# Altium integrated library Xilinx Virtex.IntLib: 240 symbols (part 4 of 34)
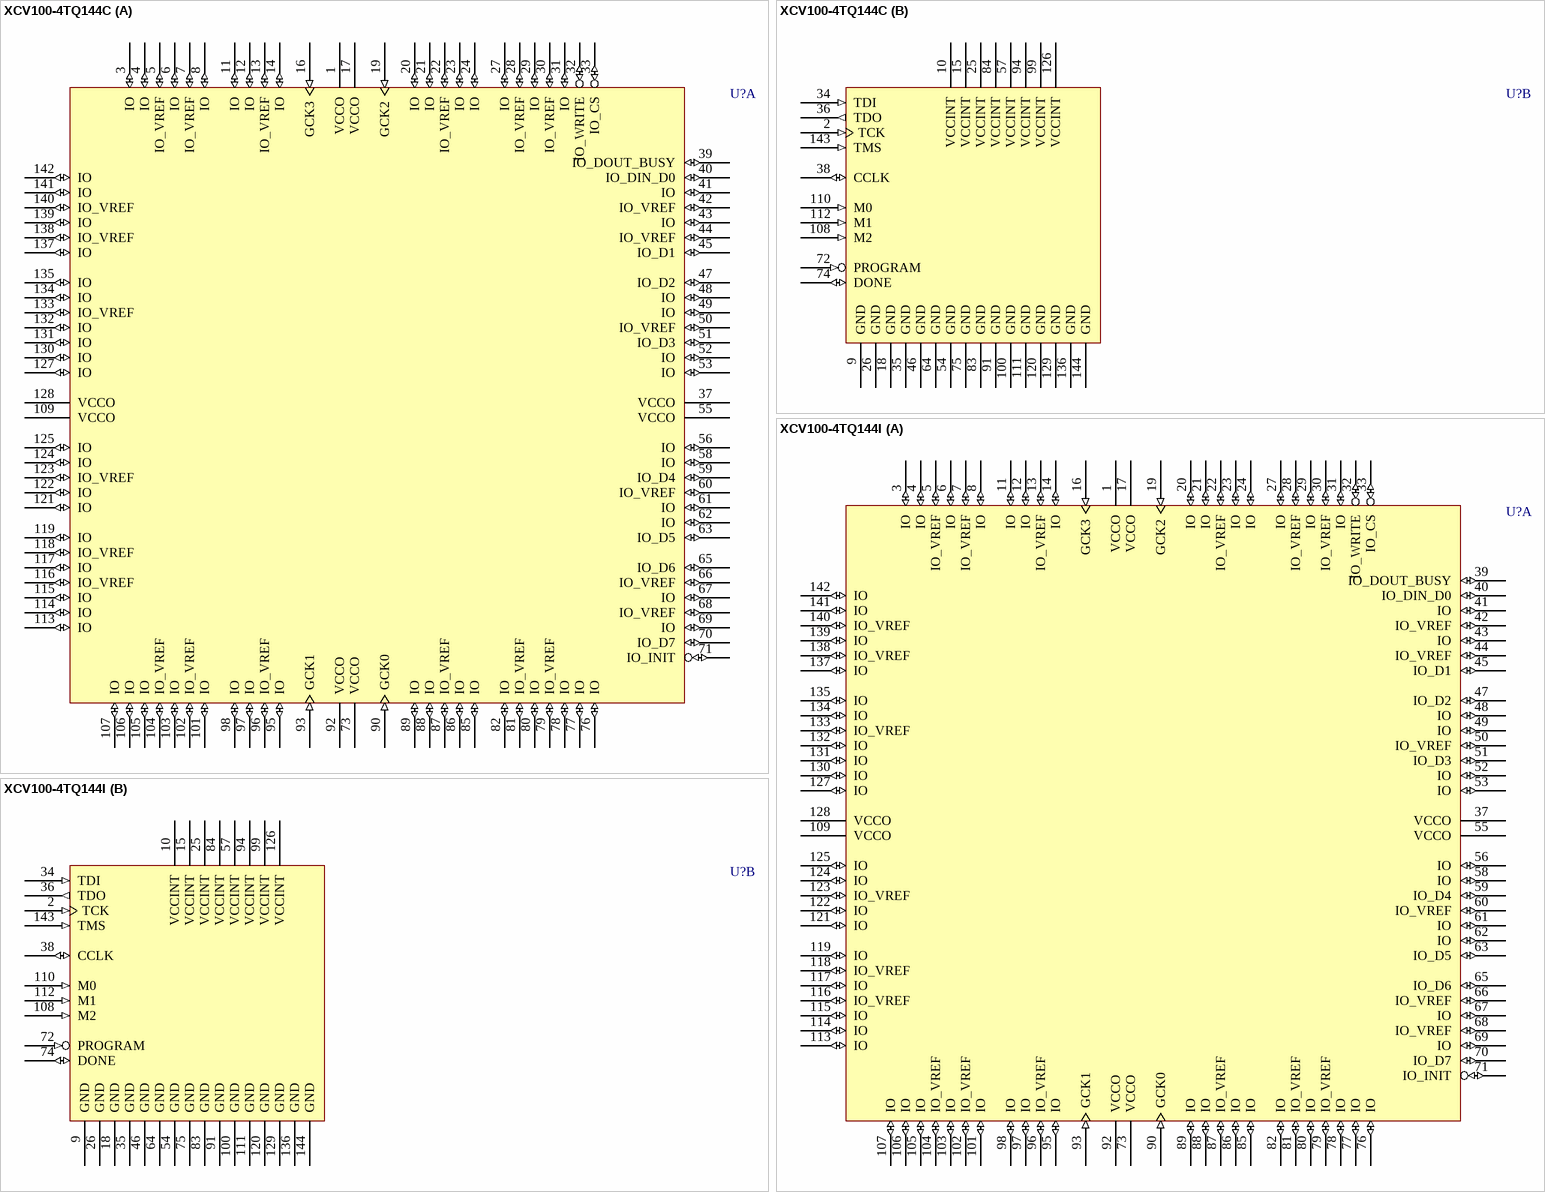
[diagram p383: symbols XCV100-4TQ144C to XCV100-4TQ144I]

## XCV100-4TQ144I
designator U?
Virtex 2.5V FPGA, 144-Pin TQFP, Industrial Grade; PackageDocument: ver1.1, Oct-2002; Published: 19-Sep-2001; LatestRevisionDate: 17-Jul-2002; LatestRevisionNote: Re-released for DXP Platform.; DatasheetDocument: Dec-2002; PackageReference: TQ144; Publisher: Altium Limited; Code_JEDEC: MS-026-BFB; Code_IPC: SQFP20X20-144
footprint TQ144 (144-Pin Thin Quad Flat Pack (TQ144))
3D model XCV100-TQ144 (144-Pin Thin Quad Flat Pack (TQ144))
signal-integrity model XCV100_TQ144 (Virtex)
part A pins: 1 VCCO (power), 3 IO (io), 4 IO (io), 5 IO_VREF (io), 6 IO (io), 7 IO_VREF (io), 8 IO (io), 11 IO (io), 12 IO (io), 13 IO_VREF (io), 14 IO (io), 16 GCK3 (in), 17 VCCO (power), 19 GCK2 (in), 20 IO (io), 21 IO (io), 22 IO_VREF (io), 23 IO (io), 24 IO (io), 27 IO (io), 28 IO_VREF (io), 29 IO (io), 30 IO_VREF (io), 31 IO (io), 32 IO_WRITE (io), 33 IO_CS (io), 37 VCCO (power), 39 IO_DOUT_BUSY (io), 40 IO_DIN_D0 (io), 41 IO (io), 42 IO_VREF (io), 43 IO (io), 44 IO_VREF (io), 45 IO_D1 (io), 47 IO_D2 (io), 48 IO (io), 49 IO (io), 50 IO_VREF (io), 51 IO_D3 (io), 52 IO (io), 53 IO (io), 55 VCCO (power), 56 IO (io), 58 IO (io), 59 IO_D4 (io), 60 IO_VREF (io), 61 IO (io), 62 IO (io), 63 IO_D5 (io), 65 IO_D6 (io), 66 IO_VREF (io), 67 IO (io), 68 IO_VREF (io), 69 IO (io), 70 IO_D7 (io), 71 IO_INIT (io), 73 VCCO (power), 76 IO (io), 77 IO (io), 78 IO (io), 79 IO_VREF (io), 80 IO (io), 81 IO_VREF (io), 82 IO (io), 85 IO (io), 86 IO (io), 87 IO_VREF (io), 88 IO (io), 89 IO (io), 90 GCK0 (in), 92 VCCO (power), 93 GCK1 (in), 95 IO (io), 96 IO_VREF (io), 97 IO (io), 98 IO (io), 101 IO (io), 102 IO_VREF (io), 103 IO (io), 104 IO_VREF (io), 105 IO (io), 106 IO (io), 107 IO (io), 109 VCCO (power), 113 IO (io), 114 IO (io), 115 IO (io), 116 IO_VREF (io), 117 IO (io), 118 IO_VREF (io), 119 IO (io), 121 IO (io), 122 IO (io), 123 IO_VREF (io), 124 IO (io), 125 IO (io), 127 IO (io), 128 VCCO (power), 130 IO (io), 131 IO (io), 132 IO (io), 133 IO_VREF (io), 134 IO (io), 135 IO (io), 137 IO (io), 138 IO_VREF (io), 139 IO (io), 140 IO_VREF (io), 141 IO (io), 142 IO (io)
part B pins: 2 TCK (in), 9 GND (power), 10 VCCINT (power), 15 VCCINT (power), 18 GND (power), 25 VCCINT (power), 26 GND (power), 34 TDI (in), 35 GND (power), 36 TDO (out), 38 CCLK (io), 46 GND (power), 54 GND (power), 57 VCCINT (power), 64 GND (power), 72 PROGRAM (in), 74 DONE (io), 75 GND (power), 83 GND (power), 84 VCCINT (power), 91 GND (power), 94 VCCINT (power), 99 VCCINT (power), 100 GND (power), 108 M2 (in), 110 M0 (in), 111 GND (power), 112 M1 (in), 120 GND (power), 126 VCCINT (power), 129 GND (power), 136 GND (power), 143 TMS (in), 144 GND (power)

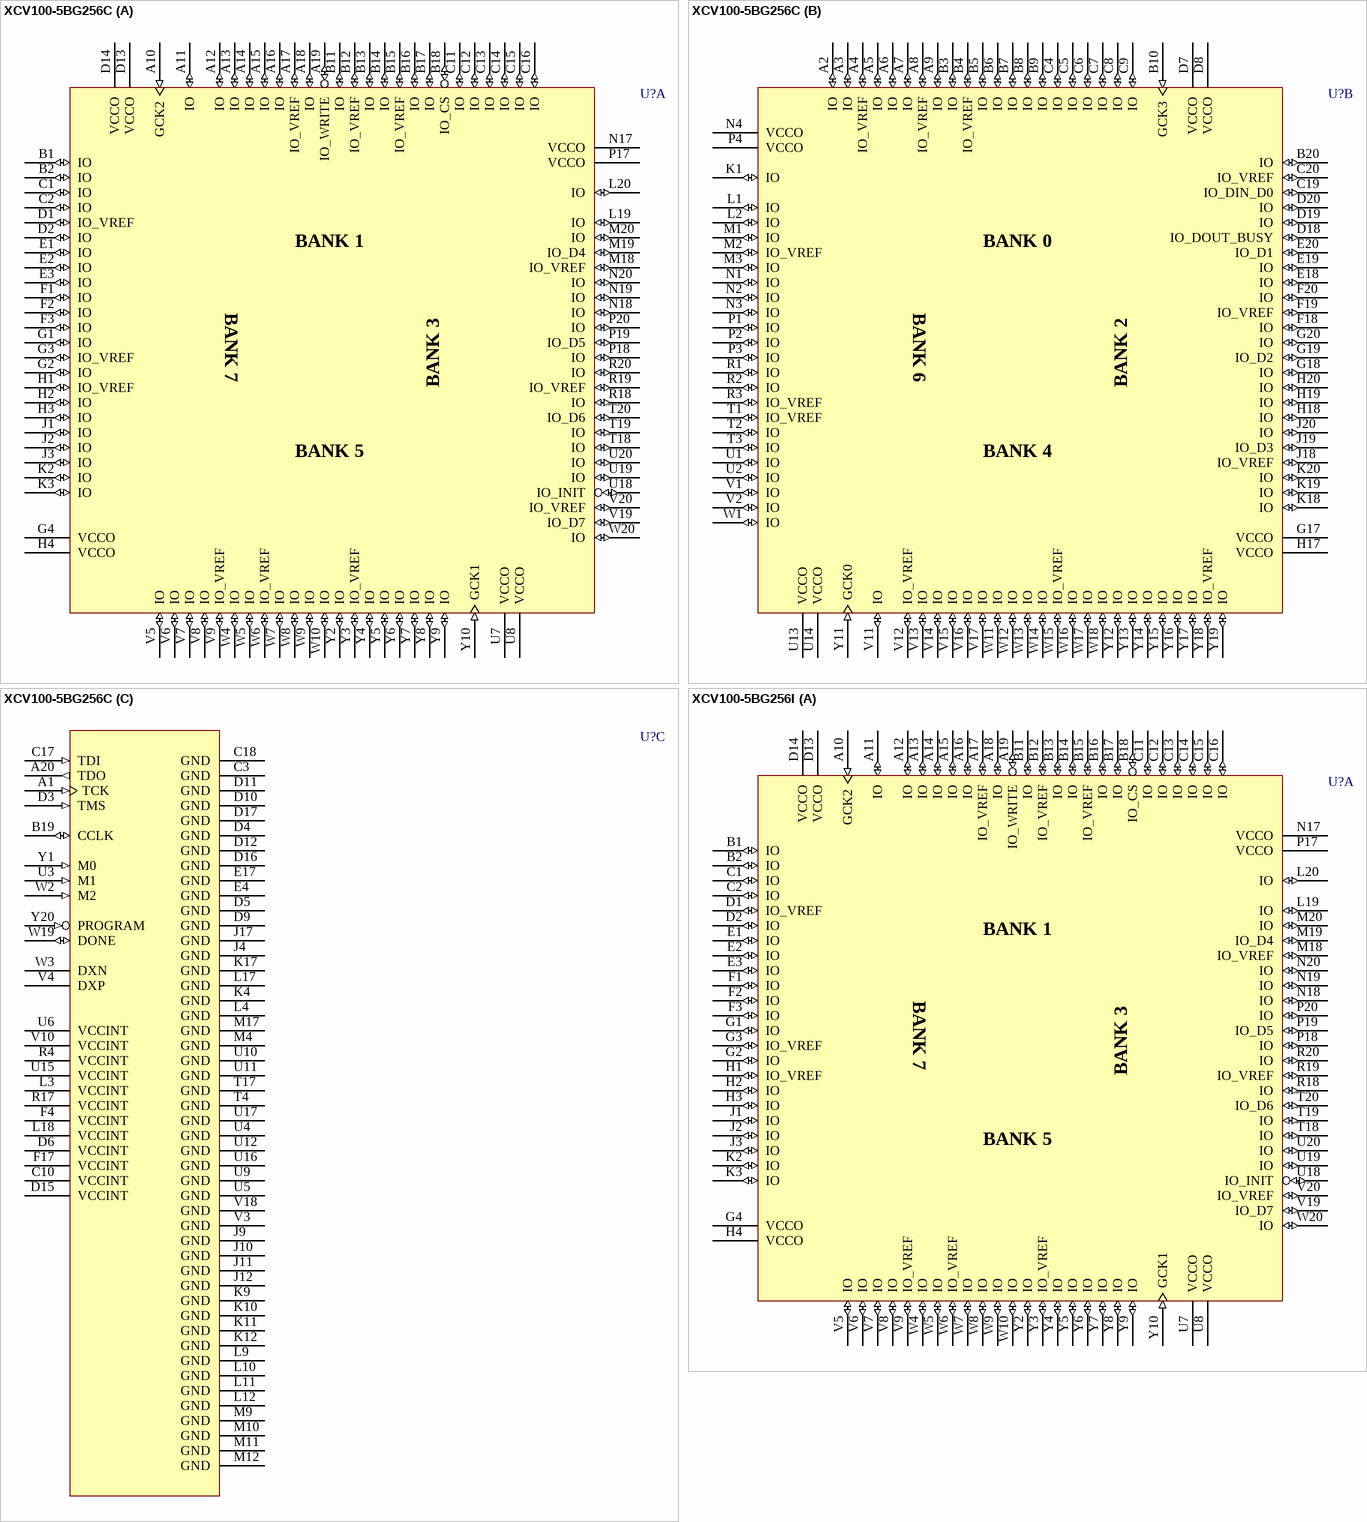
[diagram p28: symbols XCV100-5BG256C to XCV100-5BG256I]

## XCV100-5BG256C
designator U?
Virtex 2.5V FPGA, 256-Ball Thermally Enhanced BGA, Commercial Grade; PackageDocument: ver1.1, Apr-2001; Note: Solder pads are defined by the copper, i.e. non-soldermask defined (NSMD); 16 extra balls (grounded) at package center; Published: 19-Sep-2001; LatestRevisionDate: 17-Jul-2002; LatestRevisionNote: Re-released for DXP Platform.; DatasheetDocument: Dec-2002; PackageReference: BG256TE; Publisher: Altium Limited
footprint BG256TE (272-Ball Plastic Ball Grid Array (Thermally Enhanced BG256))
3D model XCV100-BG256TE (272-Ball Plastic Ball Grid Array (Thermally Enhanced BG256))
signal-integrity model XCV100_BG256 (Virtex)
part A pins: A10 GCK2 (in), A11 IO (io), A12 IO (io), A13 IO (io), A14 IO (io), A15 IO (io), A16 IO (io), A17 IO_VREF (io), A18 IO (io), A19 IO_WRITE (io), B1 IO (io), B2 IO (io), B11 IO (io), B12 IO_VREF (io), B13 IO (io), B14 IO (io), B15 IO_VREF (io), B16 IO (io), B17 IO (io), B18 IO_CS (io), C1 IO (io), C2 IO (io), C11 IO (io), C12 IO (io), C13 IO (io), C14 IO (io), C15 IO (io), C16 IO (io), D1 IO_VREF (io), D2 IO (io), D13 VCCO (power), D14 VCCO (power), E1 IO (io), E2 IO (io), E3 IO (io), F1 IO (io), F2 IO (io), F3 IO (io), G1 IO (io), G2 IO (io), G3 IO_VREF (io), G4 VCCO (power), H1 IO_VREF (io), H2 IO (io), H3 IO (io), H4 VCCO (power), J1 IO (io), J2 IO (io), J3 IO (io), K2 IO (io), K3 IO (io), L19 IO (io), L20 IO (io), M18 IO_VREF (io), M19 IO_D4 (io), M20 IO (io), N17 VCCO (power), N18 IO (io), N19 IO (io), N20 IO (io), P17 VCCO (power), P18 IO (io), P19 IO_D5 (io), P20 IO (io), R18 IO (io), R19 IO_VREF (io), R20 IO (io), T18 IO (io), T19 IO (io), T20 IO_D6 (io), U7 VCCO (power), U8 VCCO (power), U18 IO_INIT (io), U19 IO (io), U20 IO (io), V5 IO (io), V6 IO (io), V7 IO (io), V8 IO (io), V9 IO_VREF (io), V19 IO_D7 (io), V20 IO_VREF (io), W4 IO (io), W5 IO (io), W6 IO_VREF (io), W7 IO (io), W8 IO (io), W9 IO (io), W10 IO (io), W20 IO (io), Y2 IO (io), Y3 IO_VREF (io), Y4 IO (io), Y5 IO (io), Y6 IO (io), Y7 IO (io), Y8 IO (io), Y9 IO (io), Y10 GCK1 (in)
part B pins: A2 IO (io), A3 IO (io), A4 IO_VREF (io), A5 IO (io), A6 IO (io), A7 IO (io), A8 IO_VREF (io), A9 IO (io), B3 IO (io), B4 IO_VREF (io), B5 IO (io), B6 IO (io), B7 IO (io), B8 IO (io), B9 IO (io), B10 GCK3 (in), B20 IO (io), C4 IO (io), C5 IO (io), C6 IO (io), C7 IO (io), C8 IO (io), C9 IO (io), C19 IO_DIN_D0 (io), C20 IO_VREF (io), D7 VCCO (power), D8 VCCO (power), D18 IO_DOUT_BUSY (io), D19 IO (io), D20 IO (io), E18 IO (io), E19 IO (io), E20 IO_D1 (io), F18 IO (io), F19 IO_VREF (io), F20 IO (io), G17 VCCO (power), G18 IO (io), G19 IO_D2 (io), G20 IO (io), H17 VCCO (power), H18 IO (io), H19 IO (io), H20 IO (io), J18 IO_VREF (io), J19 IO_D3 (io), J20 IO (io), K1 IO (io), K18 IO (io), K19 IO (io), K20 IO (io), L1 IO (io), L2 IO (io), M1 IO (io), M2 IO_VREF (io), M3 IO (io), N1 IO (io), N2 IO (io), N3 IO (io), N4 VCCO (power), P1 IO (io), P2 IO (io), P3 IO (io), P4 VCCO (power), R1 IO (io), R2 IO (io), R3 IO_VREF (io), T1 IO_VREF (io), T2 IO (io), T3 IO (io), U1 IO (io), U2 IO (io), U13 VCCO (power), U14 VCCO (power), V1 IO (io), V2 IO (io), V11 IO (io), V12 IO_VREF (io), V13 IO (io), V14 IO (io), V15 IO (io), V16 IO (io), V17 IO (io), W1 IO (io), W11 IO (io), W12 IO (io), W13 IO (io), W14 IO (io), W15 IO_VREF (io), W16 IO (io), W17 IO (io), W18 IO (io), Y11 GCK0 (in), Y12 IO (io), Y13 IO (io), Y14 IO (io), Y15 IO (io), Y16 IO (io), Y17 IO (io), Y18 IO_VREF (io), Y19 IO (io)
part C pins: A1 TCK (in), A20 TDO (out), B19 CCLK (io), C3 GND (power), C10 VCCINT (power), C17 TDI (in), C18 GND (power), D3 TMS (in), D4 GND (power), D5 GND (power), D6 VCCINT (power), D9 GND (power), D10 GND (power), D11 GND (power), D12 GND (power), D15 VCCINT (power), D16 GND (power), D17 GND (power), E4 GND (power), E17 GND (power), F4 VCCINT (power), F17 VCCINT (power), J4 GND (power), J9 GND (power), J10 GND (power), J11 GND (power), J12 GND (power), J17 GND (power), K4 GND (power), K9 GND (power), K10 GND (power), K11 GND (power), K12 GND (power), K17 GND (power), L3 VCCINT (power), L4 GND (power), L9 GND (power), L10 GND (power), L11 GND (power), L12 GND (power), L17 GND (power), L18 VCCINT (power), M4 GND (power), M9 GND (power), M10 GND (power), M11 GND (power), M12 GND (power), M17 GND (power), R4 VCCINT (power), R17 VCCINT (power), T4 GND (power), T17 GND (power), U3 M1 (in), U4 GND (power), U5 GND (power), U6 VCCINT (power), U9 GND (power), U10 GND (power), U11 GND (power), U12 GND (power), U15 VCCINT (power), U16 GND (power), U17 GND (power), V3 GND (power), V4 DXP, V10 VCCINT (power), V18 GND (power), W2 M2 (in), W3 DXN, W19 DONE (io), Y1 M0 (in), Y20 PROGRAM (in)
part A text: BANK 1; BANK 7; BANK 3; BANK 5
part B text: BANK 0; BANK 6; BANK 2; BANK 4

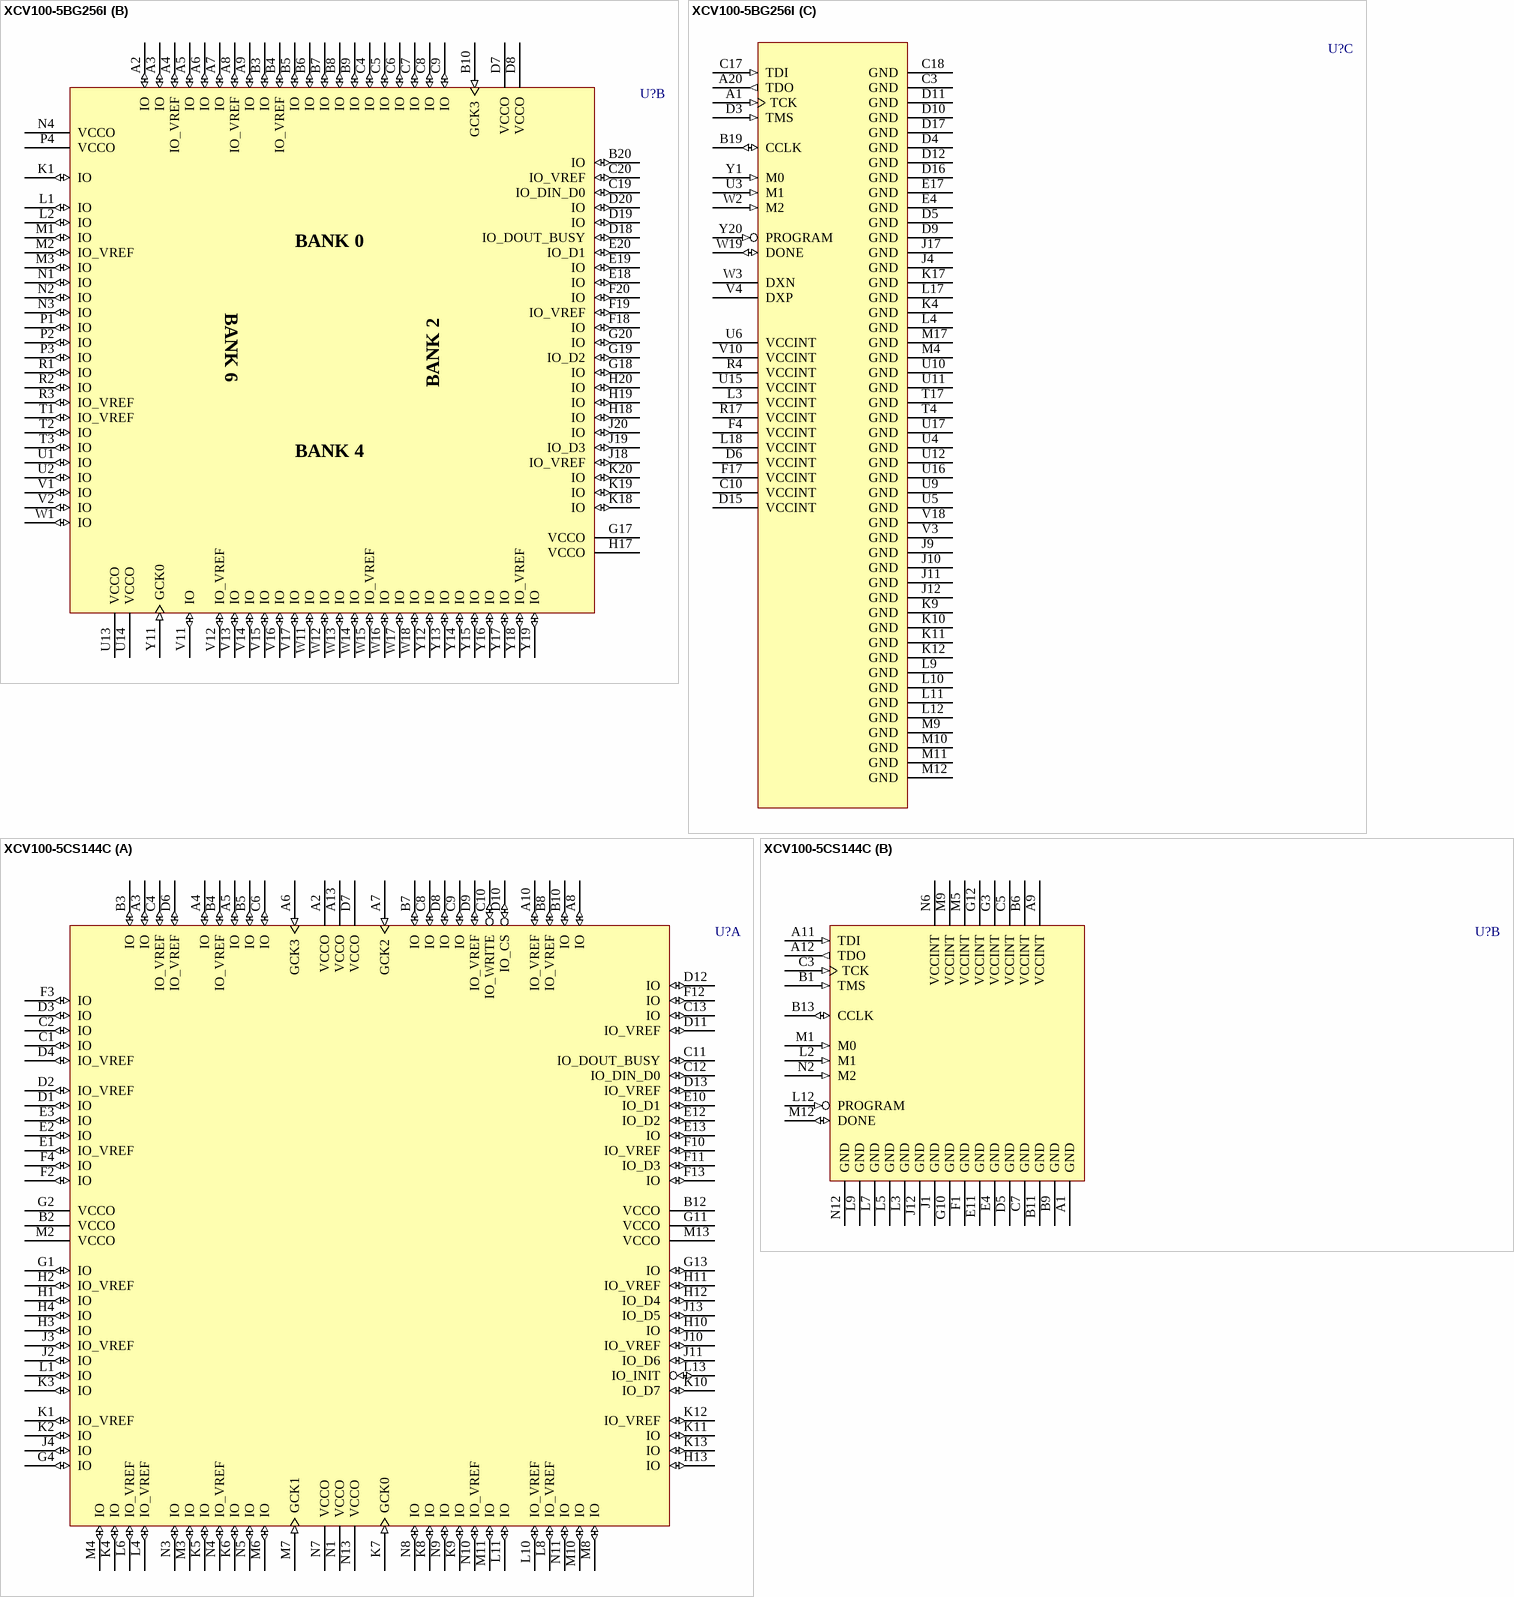
[diagram p29: symbols XCV100-5BG256I to XCV100-5CS144C]

## XCV100-5BG256I
designator U?
Virtex 2.5V FPGA, 256-Ball Thermally Enhanced BGA, Industrial Grade; PackageDocument: ver1.1, Apr-2001; Note: Solder pads are defined by the copper, i.e. non-soldermask defined (NSMD); 16 extra balls (grounded) at package center; Published: 19-Sep-2001; LatestRevisionDate: 17-Jul-2002; LatestRevisionNote: Re-released for DXP Platform.; DatasheetDocument: Dec-2002; PackageReference: BG256TE; Publisher: Altium Limited
footprint BG256TE (272-Ball Plastic Ball Grid Array (Thermally Enhanced BG256))
3D model XCV100-BG256TE (272-Ball Plastic Ball Grid Array (Thermally Enhanced BG256))
signal-integrity model XCV100_BG256 (Virtex)
part A pins: A10 GCK2 (in), A11 IO (io), A12 IO (io), A13 IO (io), A14 IO (io), A15 IO (io), A16 IO (io), A17 IO_VREF (io), A18 IO (io), A19 IO_WRITE (io), B1 IO (io), B2 IO (io), B11 IO (io), B12 IO_VREF (io), B13 IO (io), B14 IO (io), B15 IO_VREF (io), B16 IO (io), B17 IO (io), B18 IO_CS (io), C1 IO (io), C2 IO (io), C11 IO (io), C12 IO (io), C13 IO (io), C14 IO (io), C15 IO (io), C16 IO (io), D1 IO_VREF (io), D2 IO (io), D13 VCCO (power), D14 VCCO (power), E1 IO (io), E2 IO (io), E3 IO (io), F1 IO (io), F2 IO (io), F3 IO (io), G1 IO (io), G2 IO (io), G3 IO_VREF (io), G4 VCCO (power), H1 IO_VREF (io), H2 IO (io), H3 IO (io), H4 VCCO (power), J1 IO (io), J2 IO (io), J3 IO (io), K2 IO (io), K3 IO (io), L19 IO (io), L20 IO (io), M18 IO_VREF (io), M19 IO_D4 (io), M20 IO (io), N17 VCCO (power), N18 IO (io), N19 IO (io), N20 IO (io), P17 VCCO (power), P18 IO (io), P19 IO_D5 (io), P20 IO (io), R18 IO (io), R19 IO_VREF (io), R20 IO (io), T18 IO (io), T19 IO (io), T20 IO_D6 (io), U7 VCCO (power), U8 VCCO (power), U18 IO_INIT (io), U19 IO (io), U20 IO (io), V5 IO (io), V6 IO (io), V7 IO (io), V8 IO (io), V9 IO_VREF (io), V19 IO_D7 (io), V20 IO_VREF (io), W4 IO (io), W5 IO (io), W6 IO_VREF (io), W7 IO (io), W8 IO (io), W9 IO (io), W10 IO (io), W20 IO (io), Y2 IO (io), Y3 IO_VREF (io), Y4 IO (io), Y5 IO (io), Y6 IO (io), Y7 IO (io), Y8 IO (io), Y9 IO (io), Y10 GCK1 (in)
part B pins: A2 IO (io), A3 IO (io), A4 IO_VREF (io), A5 IO (io), A6 IO (io), A7 IO (io), A8 IO_VREF (io), A9 IO (io), B3 IO (io), B4 IO_VREF (io), B5 IO (io), B6 IO (io), B7 IO (io), B8 IO (io), B9 IO (io), B10 GCK3 (in), B20 IO (io), C4 IO (io), C5 IO (io), C6 IO (io), C7 IO (io), C8 IO (io), C9 IO (io), C19 IO_DIN_D0 (io), C20 IO_VREF (io), D7 VCCO (power), D8 VCCO (power), D18 IO_DOUT_BUSY (io), D19 IO (io), D20 IO (io), E18 IO (io), E19 IO (io), E20 IO_D1 (io), F18 IO (io), F19 IO_VREF (io), F20 IO (io), G17 VCCO (power), G18 IO (io), G19 IO_D2 (io), G20 IO (io), H17 VCCO (power), H18 IO (io), H19 IO (io), H20 IO (io), J18 IO_VREF (io), J19 IO_D3 (io), J20 IO (io), K1 IO (io), K18 IO (io), K19 IO (io), K20 IO (io), L1 IO (io), L2 IO (io), M1 IO (io), M2 IO_VREF (io), M3 IO (io), N1 IO (io), N2 IO (io), N3 IO (io), N4 VCCO (power), P1 IO (io), P2 IO (io), P3 IO (io), P4 VCCO (power), R1 IO (io), R2 IO (io), R3 IO_VREF (io), T1 IO_VREF (io), T2 IO (io), T3 IO (io), U1 IO (io), U2 IO (io), U13 VCCO (power), U14 VCCO (power), V1 IO (io), V2 IO (io), V11 IO (io), V12 IO_VREF (io), V13 IO (io), V14 IO (io), V15 IO (io), V16 IO (io), V17 IO (io), W1 IO (io), W11 IO (io), W12 IO (io), W13 IO (io), W14 IO (io), W15 IO_VREF (io), W16 IO (io), W17 IO (io), W18 IO (io), Y11 GCK0 (in), Y12 IO (io), Y13 IO (io), Y14 IO (io), Y15 IO (io), Y16 IO (io), Y17 IO (io), Y18 IO_VREF (io), Y19 IO (io)
part C pins: A1 TCK (in), A20 TDO (out), B19 CCLK (io), C3 GND (power), C10 VCCINT (power), C17 TDI (in), C18 GND (power), D3 TMS (in), D4 GND (power), D5 GND (power), D6 VCCINT (power), D9 GND (power), D10 GND (power), D11 GND (power), D12 GND (power), D15 VCCINT (power), D16 GND (power), D17 GND (power), E4 GND (power), E17 GND (power), F4 VCCINT (power), F17 VCCINT (power), J4 GND (power), J9 GND (power), J10 GND (power), J11 GND (power), J12 GND (power), J17 GND (power), K4 GND (power), K9 GND (power), K10 GND (power), K11 GND (power), K12 GND (power), K17 GND (power), L3 VCCINT (power), L4 GND (power), L9 GND (power), L10 GND (power), L11 GND (power), L12 GND (power), L17 GND (power), L18 VCCINT (power), M4 GND (power), M9 GND (power), M10 GND (power), M11 GND (power), M12 GND (power), M17 GND (power), R4 VCCINT (power), R17 VCCINT (power), T4 GND (power), T17 GND (power), U3 M1 (in), U4 GND (power), U5 GND (power), U6 VCCINT (power), U9 GND (power), U10 GND (power), U11 GND (power), U12 GND (power), U15 VCCINT (power), U16 GND (power), U17 GND (power), V3 GND (power), V4 DXP, V10 VCCINT (power), V18 GND (power), W2 M2 (in), W3 DXN, W19 DONE (io), Y1 M0 (in), Y20 PROGRAM (in)
part A text: BANK 1; BANK 7; BANK 3; BANK 5
part B text: BANK 0; BANK 6; BANK 2; BANK 4

## XCV100-5CS144C
designator U?
Virtex 2.5V FPGA, 144-Ball CSBGA, Commercial Grade; PackageDocument: ver1.0, Jun-2000; Note: Solder pads are defined by the copper, i.e. non-soldermask defined (NSMD); Published: 19-Sep-2001; LatestRevisionDate: 17-Sep-2003; LatestRevisionNote: PCB Footprint dimensions updated; DatasheetDocument: Dec-2002; PackageReference: CS144; Publisher: Altium Limited
footprint CS144 (144-Ball Chip Scale Ball Grid Array (CS144))
3D model XCV100-CS144 (144-Ball Chip Scale Ball Grid Array (CS144))
signal-integrity model XCV100_CS144 (Virtex)
part A pins: A2 VCCO (power), A3 IO (io), A4 IO (io), A5 IO (io), A6 GCK3 (in), A7 GCK2 (in), A8 IO (io), A10 IO_VREF (io), A13 VCCO (power), B2 VCCO (power), B3 IO (io), B4 IO_VREF (io), B5 IO (io), B7 IO (io), B8 IO_VREF (io), B10 IO (io), B12 VCCO (power), C1 IO (io), C2 IO (io), C4 IO_VREF (io), C6 IO (io), C8 IO (io), C9 IO (io), C10 IO_WRITE (io), C11 IO_DOUT_BUSY (io), C12 IO_DIN_D0 (io), C13 IO (io), D1 IO (io), D2 IO_VREF (io), D3 IO (io), D4 IO_VREF (io), D6 IO_VREF (io), D7 VCCO (power), D8 IO (io), D9 IO_VREF (io), D10 IO_CS (io), D11 IO_VREF (io), D12 IO (io), D13 IO_VREF (io), E1 IO_VREF (io), E2 IO (io), E3 IO (io), E10 IO_D1 (io), E12 IO_D2 (io), E13 IO (io), F2 IO (io), F3 IO (io), F4 IO (io), F10 IO_VREF (io), F11 IO_D3 (io), F12 IO (io), F13 IO (io), G1 IO (io), G2 VCCO (power), G4 IO (io), G11 VCCO (power), G13 IO (io), H1 IO (io), H2 IO_VREF (io), H3 IO (io), H4 IO (io), H10 IO (io), H11 IO_VREF (io), H12 IO_D4 (io), H13 IO (io), J2 IO (io), J3 IO_VREF (io), J4 IO (io), J10 IO_VREF (io), J11 IO_D6 (io), J13 IO_D5 (io), K1 IO_VREF (io), K2 IO (io), K3 IO (io), K4 IO (io), K5 IO (io), K6 IO (io), K7 GCK0 (in), K8 IO (io), K9 IO (io), K10 IO_D7 (io), K11 IO (io), K12 IO_VREF (io), K13 IO (io), L1 IO (io), L4 IO_VREF (io), L6 IO_VREF (io), L8 IO_VREF (io), L10 IO_VREF (io), L11 IO (io), L13 IO_INIT (io), M2 VCCO (power), M3 IO (io), M4 IO (io), M6 IO (io), M7 GCK1 (in), M8 IO (io), M10 IO (io), M11 IO (io), M13 VCCO (power), N1 VCCO (power), N3 IO (io), N4 IO_VREF (io), N5 IO (io), N7 VCCO (power), N8 IO (io), N9 IO (io), N10 IO_VREF (io), N11 IO (io), N13 VCCO (power)
part B pins: A1 GND (power), A9 VCCINT (power), A11 TDI (in), A12 TDO (out), B1 TMS (in), B6 VCCINT (power), B9 GND (power), B11 GND (power), B13 CCLK (io), C3 TCK (in), C5 VCCINT (power), C7 GND (power), D5 GND (power), E4 GND (power), E11 GND (power), F1 GND (power), G3 VCCINT (power), G10 GND (power), G12 VCCINT (power), J1 GND (power), J12 GND (power), L2 M1 (in), L3 GND (power), L5 GND (power), L7 GND (power), L9 GND (power), L12 PROGRAM (in), M1 M0 (in), M5 VCCINT (power), M9 VCCINT (power), M12 DONE (io), N2 M2 (in), N6 VCCINT (power), N12 GND (power)

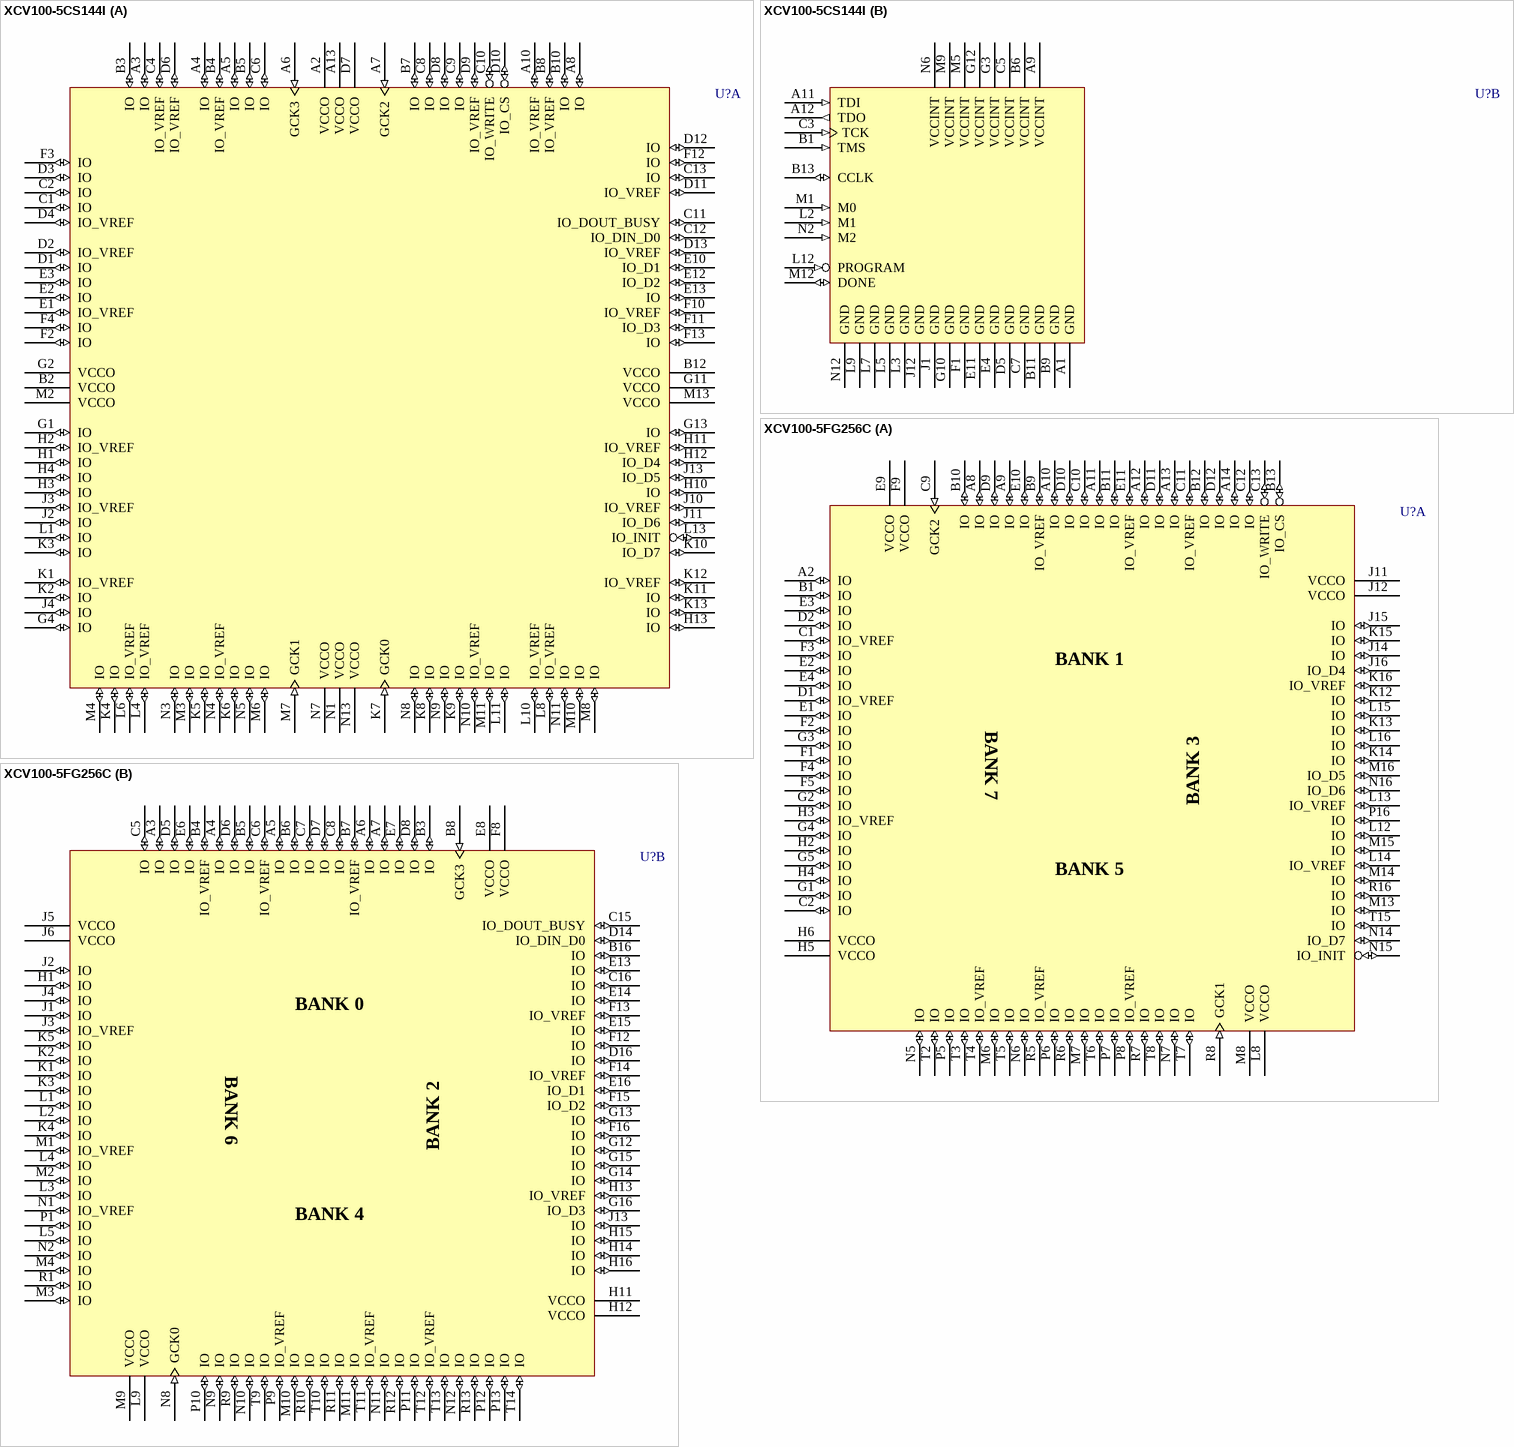
[diagram p30: symbols XCV100-5CS144I to XCV100-5FG256C]

## XCV100-5CS144I
designator U?
Virtex 2.5V FPGA, 144-Ball CSBGA, Industrial Grade; PackageDocument: ver1.0, Jun-2000; Note: Solder pads are defined by the copper, i.e. non-soldermask defined (NSMD); Published: 19-Sep-2001; LatestRevisionDate: 17-Sep-2003; LatestRevisionNote: PCB Footprint dimensions updated; DatasheetDocument: Dec-2002; PackageReference: CS144; Publisher: Altium Limited
footprint CS144 (144-Ball Chip Scale Ball Grid Array (CS144))
3D model XCV100-CS144 (144-Ball Chip Scale Ball Grid Array (CS144))
signal-integrity model XCV100_CS144 (Virtex)
part A pins: A2 VCCO (power), A3 IO (io), A4 IO (io), A5 IO (io), A6 GCK3 (in), A7 GCK2 (in), A8 IO (io), A10 IO_VREF (io), A13 VCCO (power), B2 VCCO (power), B3 IO (io), B4 IO_VREF (io), B5 IO (io), B7 IO (io), B8 IO_VREF (io), B10 IO (io), B12 VCCO (power), C1 IO (io), C2 IO (io), C4 IO_VREF (io), C6 IO (io), C8 IO (io), C9 IO (io), C10 IO_WRITE (io), C11 IO_DOUT_BUSY (io), C12 IO_DIN_D0 (io), C13 IO (io), D1 IO (io), D2 IO_VREF (io), D3 IO (io), D4 IO_VREF (io), D6 IO_VREF (io), D7 VCCO (power), D8 IO (io), D9 IO_VREF (io), D10 IO_CS (io), D11 IO_VREF (io), D12 IO (io), D13 IO_VREF (io), E1 IO_VREF (io), E2 IO (io), E3 IO (io), E10 IO_D1 (io), E12 IO_D2 (io), E13 IO (io), F2 IO (io), F3 IO (io), F4 IO (io), F10 IO_VREF (io), F11 IO_D3 (io), F12 IO (io), F13 IO (io), G1 IO (io), G2 VCCO (power), G4 IO (io), G11 VCCO (power), G13 IO (io), H1 IO (io), H2 IO_VREF (io), H3 IO (io), H4 IO (io), H10 IO (io), H11 IO_VREF (io), H12 IO_D4 (io), H13 IO (io), J2 IO (io), J3 IO_VREF (io), J4 IO (io), J10 IO_VREF (io), J11 IO_D6 (io), J13 IO_D5 (io), K1 IO_VREF (io), K2 IO (io), K3 IO (io), K4 IO (io), K5 IO (io), K6 IO (io), K7 GCK0 (in), K8 IO (io), K9 IO (io), K10 IO_D7 (io), K11 IO (io), K12 IO_VREF (io), K13 IO (io), L1 IO (io), L4 IO_VREF (io), L6 IO_VREF (io), L8 IO_VREF (io), L10 IO_VREF (io), L11 IO (io), L13 IO_INIT (io), M2 VCCO (power), M3 IO (io), M4 IO (io), M6 IO (io), M7 GCK1 (in), M8 IO (io), M10 IO (io), M11 IO (io), M13 VCCO (power), N1 VCCO (power), N3 IO (io), N4 IO_VREF (io), N5 IO (io), N7 VCCO (power), N8 IO (io), N9 IO (io), N10 IO_VREF (io), N11 IO (io), N13 VCCO (power)
part B pins: A1 GND (power), A9 VCCINT (power), A11 TDI (in), A12 TDO (out), B1 TMS (in), B6 VCCINT (power), B9 GND (power), B11 GND (power), B13 CCLK (io), C3 TCK (in), C5 VCCINT (power), C7 GND (power), D5 GND (power), E4 GND (power), E11 GND (power), F1 GND (power), G3 VCCINT (power), G10 GND (power), G12 VCCINT (power), J1 GND (power), J12 GND (power), L2 M1 (in), L3 GND (power), L5 GND (power), L7 GND (power), L9 GND (power), L12 PROGRAM (in), M1 M0 (in), M5 VCCINT (power), M9 VCCINT (power), M12 DONE (io), N2 M2 (in), N6 VCCINT (power), N12 GND (power)

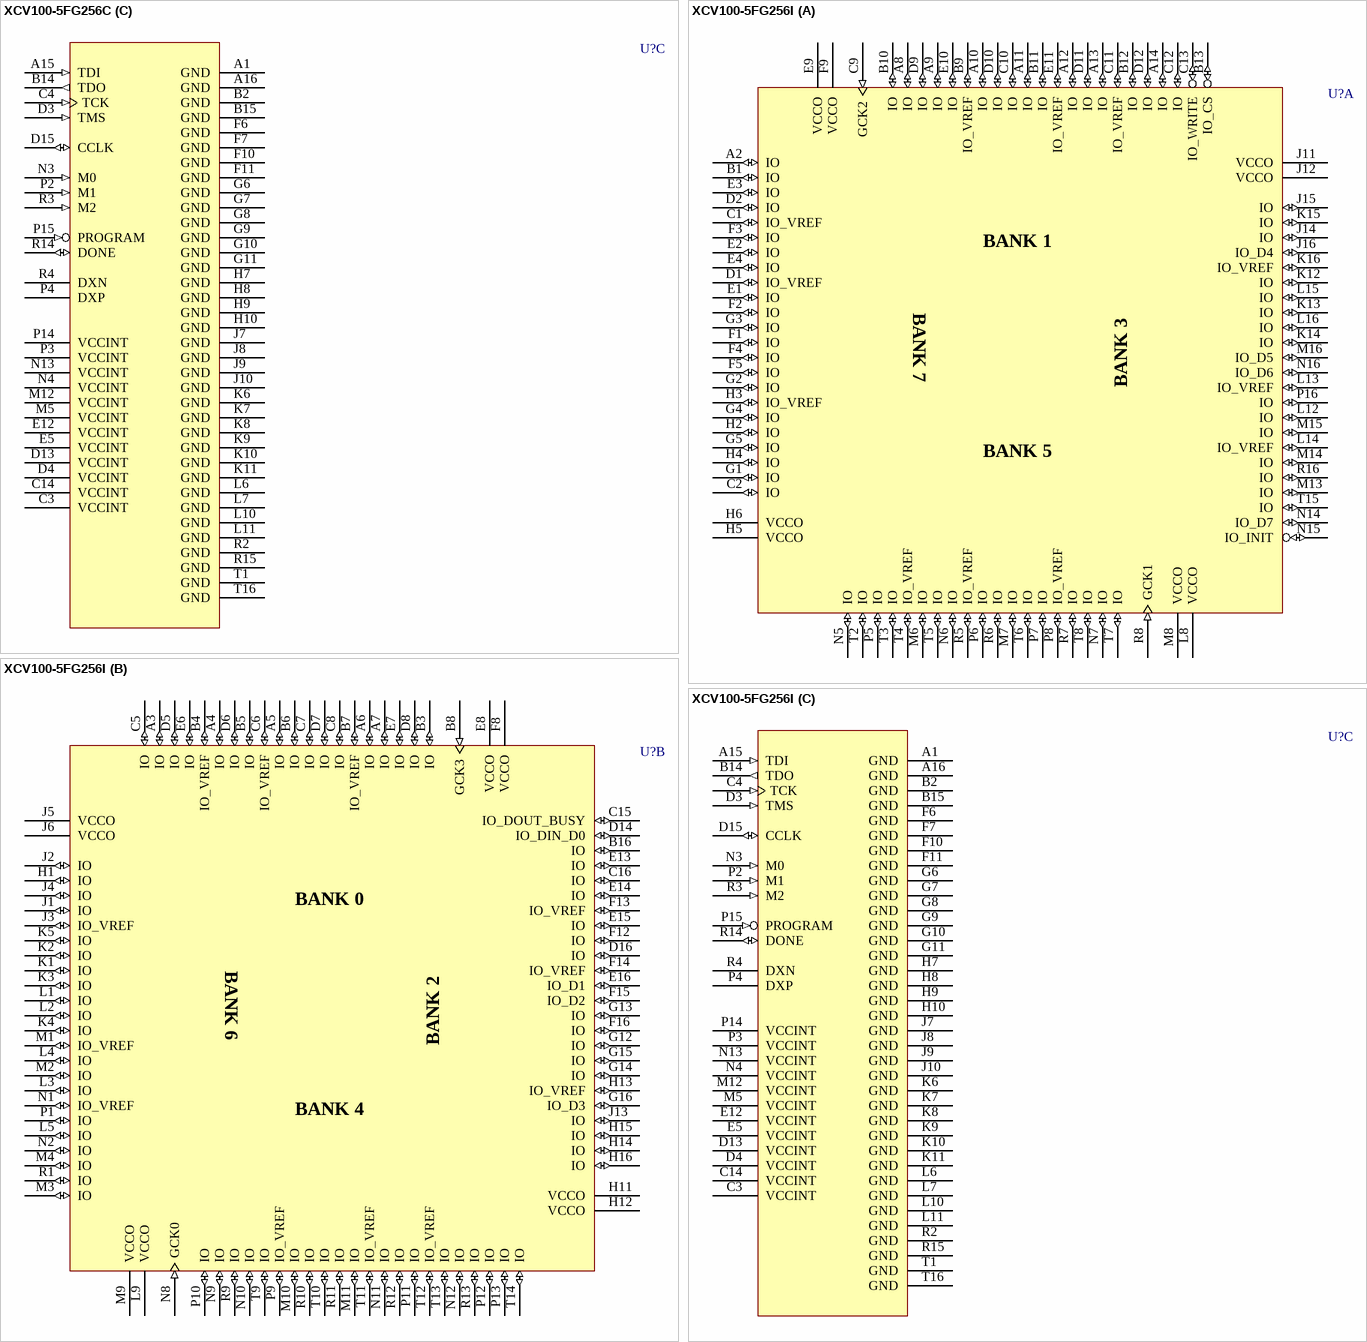
[diagram p31: symbols XCV100-5FG256C to XCV100-5FG256I]

## XCV100-5FG256C
designator U?
Virtex 2.5V FPGA, 256-Ball FBGA, Commercial Grade; PackageDocument: ver1.1, Apr-2001; Note: Solder pads are defined by the copper, i.e. non-soldermask defined (NSMD); Published: 19-Sep-2001; LatestRevisionDate: 17-Jul-2002; LatestRevisionNote: Re-released for DXP Platform.; DatasheetDocument: Dec-2002; PackageReference: FG256; Publisher: Altium Limited; Code_JEDEC: MO-151-AAF-1; Code_IPC: PBGA 17X17 FE256
footprint FG256 (256-Ball Fine Pitch Ball Grid Array (FG256))
3D model XCV100-FG256 (256-Ball Fine Pitch Ball Grid Array (FG256))
signal-integrity model XCV100_FG256 (Virtex)
part A pins: A2 IO (io), A8 IO (io), A9 IO (io), A10 IO (io), A11 IO (io), A12 IO (io), A13 IO (io), A14 IO (io), B1 IO (io), B9 IO_VREF (io), B10 IO (io), B11 IO (io), B12 IO (io), B13 IO_CS (io), C1 IO_VREF (io), C2 IO (io), C9 GCK2 (in), C10 IO (io), C11 IO_VREF (io), C12 IO (io), C13 IO_WRITE (io), D1 IO_VREF (io), D2 IO (io), D9 IO (io), D10 IO (io), D11 IO (io), D12 IO (io), E1 IO (io), E2 IO (io), E3 IO (io), E4 IO (io), E9 VCCO (power), E10 IO (io), E11 IO_VREF (io), F1 IO (io), F2 IO (io), F3 IO (io), F4 IO (io), F5 IO (io), F9 VCCO (power), G1 IO (io), G2 IO (io), G3 IO (io), G4 IO (io), G5 IO (io), H2 IO (io), H3 IO_VREF (io), H4 IO (io), H5 VCCO (power), H6 VCCO (power), J11 VCCO (power), J12 VCCO (power), J14 IO (io), J15 IO (io), J16 IO_D4 (io), K12 IO (io), K13 IO (io), K14 IO (io), K15 IO (io), K16 IO_VREF (io), L8 VCCO (power), L12 IO (io), L13 IO_VREF (io), L14 IO_VREF (io), L15 IO (io), L16 IO (io), M6 IO (io), M7 IO (io), M8 VCCO (power), M13 IO (io), M14 IO (io), M15 IO (io), M16 IO_D5 (io), N5 IO (io), N6 IO (io), N7 IO (io), N14 IO_D7 (io), N15 IO_INIT (io), N16 IO_D6 (io), P5 IO (io), P6 IO (io), P7 IO (io), P8 IO_VREF (io), P16 IO (io), R5 IO_VREF (io), R6 IO (io), R7 IO (io), R8 GCK1 (in), R16 IO (io), T2 IO (io), T3 IO (io), T4 IO_VREF (io), T5 IO (io), T6 IO (io), T7 IO (io), T8 IO (io), T15 IO (io)
part B pins: A3 IO (io), A4 IO (io), A5 IO (io), A6 IO (io), A7 IO (io), B3 IO (io), B4 IO_VREF (io), B5 IO (io), B6 IO (io), B7 IO_VREF (io), B8 GCK3 (in), B16 IO (io), C5 IO (io), C6 IO_VREF (io), C7 IO (io), C8 IO (io), C15 IO_DOUT_BUSY (io), C16 IO (io), D5 IO (io), D6 IO (io), D7 IO (io), D8 IO (io), D14 IO_DIN_D0 (io), D16 IO (io), E6 IO (io), E7 IO (io), E8 VCCO (power), E13 IO (io), E14 IO (io), E15 IO (io), E16 IO_D1 (io), F8 VCCO (power), F12 IO (io), F13 IO_VREF (io), F14 IO_VREF (io), F15 IO_D2 (io), F16 IO (io), G12 IO (io), G13 IO (io), G14 IO (io), G15 IO (io), G16 IO_D3 (io), H1 IO (io), H11 VCCO (power), H12 VCCO (power), H13 IO_VREF (io), H14 IO (io), H15 IO (io), H16 IO (io), J1 IO (io), J2 IO (io), J3 IO_VREF (io), J4 IO (io), J5 VCCO (power), J6 VCCO (power), J13 IO (io), K1 IO (io), K2 IO (io), K3 IO (io), K4 IO (io), K5 IO (io), L1 IO (io), L2 IO (io), L3 IO (io), L4 IO (io), L5 IO (io), L9 VCCO (power), M1 IO_VREF (io), M2 IO (io), M3 IO (io), M4 IO (io), M9 VCCO (power), M10 IO (io), M11 IO (io), N1 IO_VREF (io), N2 IO (io), N8 GCK0 (in), N9 IO (io), N10 IO (io), N11 IO (io), N12 IO (io), P1 IO (io), P9 IO_VREF (io), P10 IO (io), P11 IO (io), P12 IO (io), P13 IO (io), R1 IO (io), R9 IO (io), R10 IO (io), R11 IO (io), R12 IO (io), R13 IO (io), T9 IO (io), T10 IO (io), T11 IO_VREF (io), T12 IO_VREF (io), T13 IO (io), T14 IO (io)
part C pins: A1 GND (power), A15 TDI (in), A16 GND (power), B2 GND (power), B14 TDO (out), B15 GND (power), C3 VCCINT (power), C4 TCK (in), C14 VCCINT (power), D3 TMS (in), D4 VCCINT (power), D13 VCCINT (power), D15 CCLK (io), E5 VCCINT (power), E12 VCCINT (power), F6 GND (power), F7 GND (power), F10 GND (power), F11 GND (power), G6 GND (power), G7 GND (power), G8 GND (power), G9 GND (power), G10 GND (power), G11 GND (power), H7 GND (power), H8 GND (power), H9 GND (power), H10 GND (power), J7 GND (power), J8 GND (power), J9 GND (power), J10 GND (power), K6 GND (power), K7 GND (power), K8 GND (power), K9 GND (power), K10 GND (power), K11 GND (power), L6 GND (power), L7 GND (power), L10 GND (power), L11 GND (power), M5 VCCINT (power), M12 VCCINT (power), N3 M0 (in), N4 VCCINT (power), N13 VCCINT (power), P2 M1 (in), P3 VCCINT (power), P4 DXP, P14 VCCINT (power), P15 PROGRAM (in), R2 GND (power), R3 M2 (in), R4 DXN, R14 DONE (io), R15 GND (power), T1 GND (power), T16 GND (power)
part A text: BANK 1; BANK 7; BANK 3; BANK 5
part B text: BANK 0; BANK 6; BANK 2; BANK 4

## XCV100-5FG256I
designator U?
Virtex 2.5V FPGA, 256-Ball FBGA, Industrial Grade; PackageDocument: ver1.1, Apr-2001; Note: Solder pads are defined by the copper, i.e. non-soldermask defined (NSMD); Published: 19-Sep-2001; LatestRevisionDate: 17-Jul-2002; LatestRevisionNote: Re-released for DXP Platform.; DatasheetDocument: Dec-2002; PackageReference: FG256; Publisher: Altium Limited; Code_JEDEC: MO-151-AAF-1; Code_IPC: PBGA 17X17 FE256
footprint FG256 (256-Ball Fine Pitch Ball Grid Array (FG256))
3D model XCV100-FG256 (256-Ball Fine Pitch Ball Grid Array (FG256))
signal-integrity model XCV100_FG256 (Virtex)
part A pins: A2 IO (io), A8 IO (io), A9 IO (io), A10 IO (io), A11 IO (io), A12 IO (io), A13 IO (io), A14 IO (io), B1 IO (io), B9 IO_VREF (io), B10 IO (io), B11 IO (io), B12 IO (io), B13 IO_CS (io), C1 IO_VREF (io), C2 IO (io), C9 GCK2 (in), C10 IO (io), C11 IO_VREF (io), C12 IO (io), C13 IO_WRITE (io), D1 IO_VREF (io), D2 IO (io), D9 IO (io), D10 IO (io), D11 IO (io), D12 IO (io), E1 IO (io), E2 IO (io), E3 IO (io), E4 IO (io), E9 VCCO (power), E10 IO (io), E11 IO_VREF (io), F1 IO (io), F2 IO (io), F3 IO (io), F4 IO (io), F5 IO (io), F9 VCCO (power), G1 IO (io), G2 IO (io), G3 IO (io), G4 IO (io), G5 IO (io), H2 IO (io), H3 IO_VREF (io), H4 IO (io), H5 VCCO (power), H6 VCCO (power), J11 VCCO (power), J12 VCCO (power), J14 IO (io), J15 IO (io), J16 IO_D4 (io), K12 IO (io), K13 IO (io), K14 IO (io), K15 IO (io), K16 IO_VREF (io), L8 VCCO (power), L12 IO (io), L13 IO_VREF (io), L14 IO_VREF (io), L15 IO (io), L16 IO (io), M6 IO (io), M7 IO (io), M8 VCCO (power), M13 IO (io), M14 IO (io), M15 IO (io), M16 IO_D5 (io), N5 IO (io), N6 IO (io), N7 IO (io), N14 IO_D7 (io), N15 IO_INIT (io), N16 IO_D6 (io), P5 IO (io), P6 IO (io), P7 IO (io), P8 IO_VREF (io), P16 IO (io), R5 IO_VREF (io), R6 IO (io), R7 IO (io), R8 GCK1 (in), R16 IO (io), T2 IO (io), T3 IO (io), T4 IO_VREF (io), T5 IO (io), T6 IO (io), T7 IO (io), T8 IO (io), T15 IO (io)
part B pins: A3 IO (io), A4 IO (io), A5 IO (io), A6 IO (io), A7 IO (io), B3 IO (io), B4 IO_VREF (io), B5 IO (io), B6 IO (io), B7 IO_VREF (io), B8 GCK3 (in), B16 IO (io), C5 IO (io), C6 IO_VREF (io), C7 IO (io), C8 IO (io), C15 IO_DOUT_BUSY (io), C16 IO (io), D5 IO (io), D6 IO (io), D7 IO (io), D8 IO (io), D14 IO_DIN_D0 (io), D16 IO (io), E6 IO (io), E7 IO (io), E8 VCCO (power), E13 IO (io), E14 IO (io), E15 IO (io), E16 IO_D1 (io), F8 VCCO (power), F12 IO (io), F13 IO_VREF (io), F14 IO_VREF (io), F15 IO_D2 (io), F16 IO (io), G12 IO (io), G13 IO (io), G14 IO (io), G15 IO (io), G16 IO_D3 (io), H1 IO (io), H11 VCCO (power), H12 VCCO (power), H13 IO_VREF (io), H14 IO (io), H15 IO (io), H16 IO (io), J1 IO (io), J2 IO (io), J3 IO_VREF (io), J4 IO (io), J5 VCCO (power), J6 VCCO (power), J13 IO (io), K1 IO (io), K2 IO (io), K3 IO (io), K4 IO (io), K5 IO (io), L1 IO (io), L2 IO (io), L3 IO (io), L4 IO (io), L5 IO (io), L9 VCCO (power), M1 IO_VREF (io), M2 IO (io), M3 IO (io), M4 IO (io), M9 VCCO (power), M10 IO (io), M11 IO (io), N1 IO_VREF (io), N2 IO (io), N8 GCK0 (in), N9 IO (io), N10 IO (io), N11 IO (io), N12 IO (io), P1 IO (io), P9 IO_VREF (io), P10 IO (io), P11 IO (io), P12 IO (io), P13 IO (io), R1 IO (io), R9 IO (io), R10 IO (io), R11 IO (io), R12 IO (io), R13 IO (io), T9 IO (io), T10 IO (io), T11 IO_VREF (io), T12 IO_VREF (io), T13 IO (io), T14 IO (io)
part C pins: A1 GND (power), A15 TDI (in), A16 GND (power), B2 GND (power), B14 TDO (out), B15 GND (power), C3 VCCINT (power), C4 TCK (in), C14 VCCINT (power), D3 TMS (in), D4 VCCINT (power), D13 VCCINT (power), D15 CCLK (io), E5 VCCINT (power), E12 VCCINT (power), F6 GND (power), F7 GND (power), F10 GND (power), F11 GND (power), G6 GND (power), G7 GND (power), G8 GND (power), G9 GND (power), G10 GND (power), G11 GND (power), H7 GND (power), H8 GND (power), H9 GND (power), H10 GND (power), J7 GND (power), J8 GND (power), J9 GND (power), J10 GND (power), K6 GND (power), K7 GND (power), K8 GND (power), K9 GND (power), K10 GND (power), K11 GND (power), L6 GND (power), L7 GND (power), L10 GND (power), L11 GND (power), M5 VCCINT (power), M12 VCCINT (power), N3 M0 (in), N4 VCCINT (power), N13 VCCINT (power), P2 M1 (in), P3 VCCINT (power), P4 DXP, P14 VCCINT (power), P15 PROGRAM (in), R2 GND (power), R3 M2 (in), R4 DXN, R14 DONE (io), R15 GND (power), T1 GND (power), T16 GND (power)
part A text: BANK 1; BANK 7; BANK 3; BANK 5
part B text: BANK 0; BANK 6; BANK 2; BANK 4

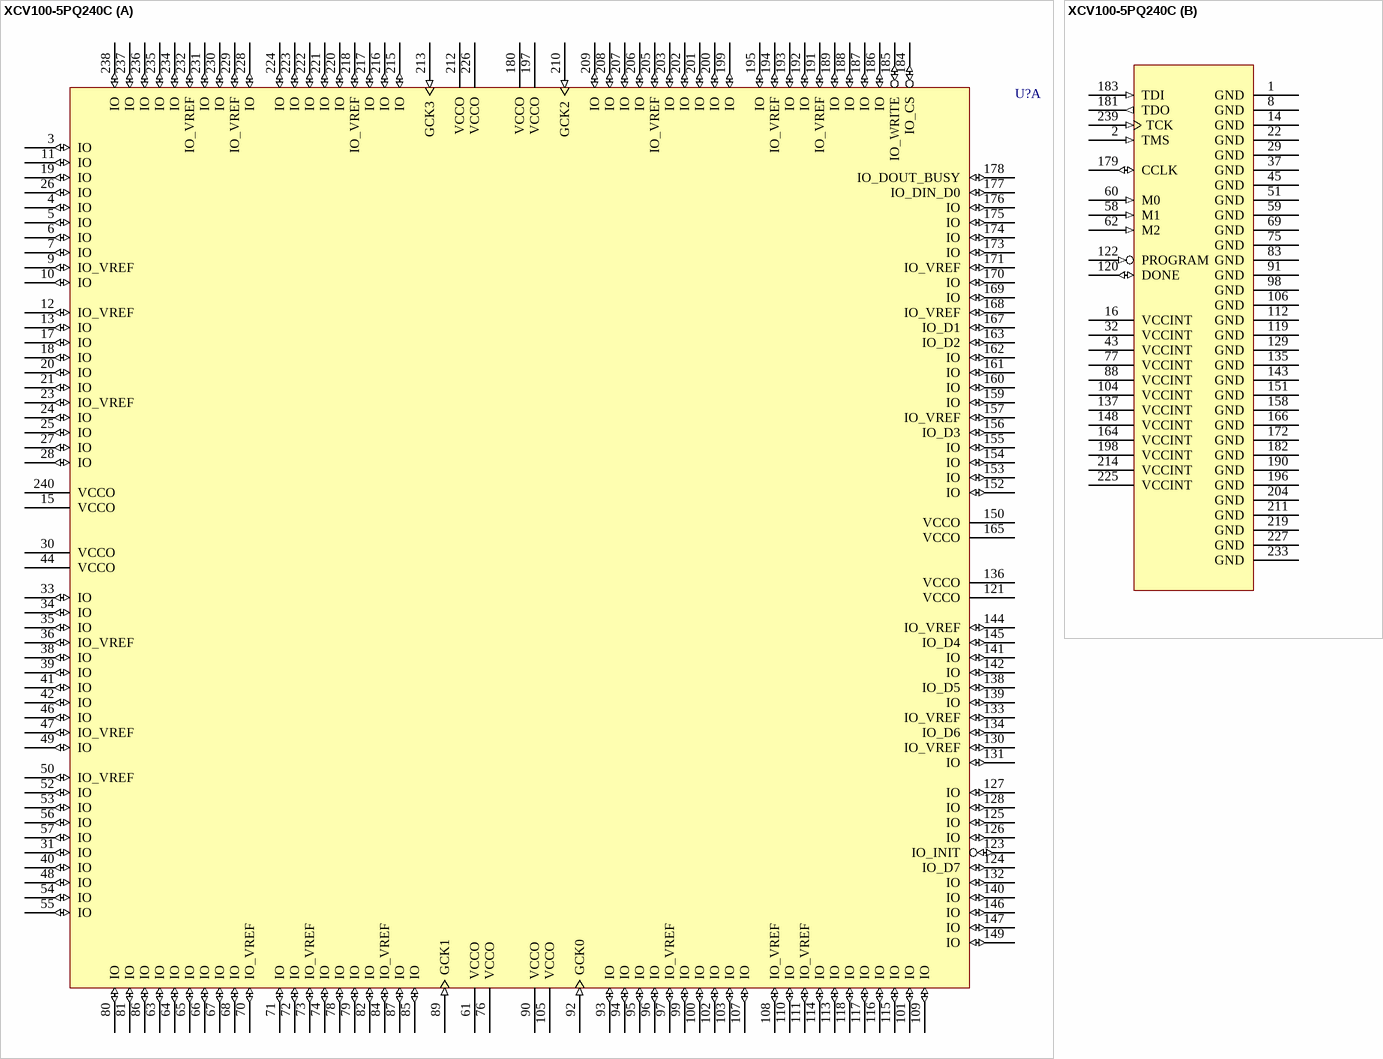
[diagram p32: symbol XCV100-5PQ240C]

## XCV100-5PQ240C
designator U?
Virtex 2.5V FPGA, 240-Pin PQFP, Commercial Grade; PackageDocument: ver1.1, Oct-2002; Published: 19-Sep-2001; LatestRevisionDate: 17-Jul-2002; LatestRevisionNote: Re-released for DXP Platform.; DatasheetDocument: Dec-2002; PackageReference: PQ240; Publisher: Altium Limited; Code_JEDEC: MO-143-GA
footprint PQ240 (240-Pin Plastic Quad Flat Pack (PQ240))
3D model XCV100-PQ240 (240-Pin Plastic Quad Flat Pack (PQ240))
signal-integrity model XCV100_PQ240 (Virtex)
part A pins: 3 IO (io), 4 IO (io), 5 IO (io), 6 IO (io), 7 IO (io), 9 IO_VREF (io), 10 IO (io), 11 IO (io), 12 IO_VREF (io), 13 IO (io), 15 VCCO (power), 17 IO (io), 18 IO (io), 19 IO (io), 20 IO (io), 21 IO (io), 23 IO_VREF (io), 24 IO (io), 25 IO (io), 26 IO (io), 27 IO (io), 28 IO (io), 30 VCCO (power), 31 IO (io), 33 IO (io), 34 IO (io), 35 IO (io), 36 IO_VREF (io), 38 IO (io), 39 IO (io), 40 IO (io), 41 IO (io), 42 IO (io), 44 VCCO (power), 46 IO (io), 47 IO_VREF (io), 48 IO (io), 49 IO (io), 50 IO_VREF (io), 52 IO (io), 53 IO (io), 54 IO (io), 55 IO (io), 56 IO (io), 57 IO (io), 61 VCCO (power), 63 IO (io), 64 IO (io), 65 IO (io), 66 IO (io), 67 IO (io), 68 IO (io), 70 IO_VREF (io), 71 IO (io), 72 IO (io), 73 IO_VREF (io), 74 IO (io), 76 VCCO (power), 78 IO (io), 79 IO (io), 80 IO (io), 81 IO (io), 82 IO (io), 84 IO_VREF (io), 85 IO (io), 86 IO (io), 87 IO (io), 89 GCK1 (in), 90 VCCO (power), 92 GCK0 (in), 93 IO (io), 94 IO (io), 95 IO (io), 96 IO (io), 97 IO_VREF (io), 99 IO (io), 100 IO (io), 101 IO (io), 102 IO (io), 103 IO (io), 105 VCCO (power), 107 IO (io), 108 IO_VREF (io), 109 IO (io), 110 IO (io), 111 IO_VREF (io), 113 IO (io), 114 IO (io), 115 IO (io), 116 IO (io), 117 IO (io), 118 IO (io), 121 VCCO (power), 123 IO_INIT (io), 124 IO_D7 (io), 125 IO (io), 126 IO (io), 127 IO (io), 128 IO (io), 130 IO_VREF (io), 131 IO (io), 132 IO (io), 133 IO_VREF (io), 134 IO_D6 (io), 136 VCCO (power), 138 IO_D5 (io), 139 IO (io), 140 IO (io), 141 IO (io), 142 IO (io), 144 IO_VREF (io), 145 IO_D4 (io), 146 IO (io), 147 IO (io), 149 IO (io), 150 VCCO (power), 152 IO (io), 153 IO (io), 154 IO (io), 155 IO (io), 156 IO_D3 (io), 157 IO_VREF (io), 159 IO (io), 160 IO (io), 161 IO (io), 162 IO (io), 163 IO_D2 (io), 165 VCCO (power), 167 IO_D1 (io), 168 IO_VREF (io), 169 IO (io), 170 IO (io), 171 IO_VREF (io), 173 IO (io), 174 IO (io), 175 IO (io), 176 IO (io), 177 IO_DIN_D0 (io), 178 IO_DOUT_BUSY (io), 180 VCCO (power), 184 IO_CS (io), 185 IO_WRITE (io), 186 IO (io), 187 IO (io), 188 IO (io), 189 IO (io), 191 IO_VREF (io), 192 IO (io), 193 IO (io), 194 IO_VREF (io), 195 IO (io), 197 VCCO (power), 199 IO (io), 200 IO (io), 201 IO (io), 202 IO (io), 203 IO (io), 205 IO_VREF (io), 206 IO (io), 207 IO (io), 208 IO (io), 209 IO (io), 210 GCK2 (in), 212 VCCO (power), 213 GCK3 (in), 215 IO (io), 216 IO (io), 217 IO (io), 218 IO_VREF (io), 220 IO (io), 221 IO (io), 222 IO (io), 223 IO (io), 224 IO (io), 226 VCCO (power), 228 IO (io), 229 IO_VREF (io), 230 IO (io), 231 IO (io), 232 IO_VREF (io), 234 IO (io), 235 IO (io), 236 IO (io), 237 IO (io), 238 IO (io), 240 VCCO (power)
part B pins: 1 GND (power), 2 TMS (in), 8 GND (power), 14 GND (power), 16 VCCINT (power), 22 GND (power), 29 GND (power), 32 VCCINT (power), 37 GND (power), 43 VCCINT (power), 45 GND (power), 51 GND (power), 58 M1 (in), 59 GND (power), 60 M0 (in), 62 M2 (in), 69 GND (power), 75 GND (power), 77 VCCINT (power), 83 GND (power), 88 VCCINT (power), 91 GND (power), 98 GND (power), 104 VCCINT (power), 106 GND (power), 112 GND (power), 119 GND (power), 120 DONE (io), 122 PROGRAM (in), 129 GND (power), 135 GND (power), 137 VCCINT (power), 143 GND (power), 148 VCCINT (power), 151 GND (power), 158 GND (power), 164 VCCINT (power), 166 GND (power), 172 GND (power), 179 CCLK (io), 181 TDO (out), 182 GND (power), 183 TDI (in), 190 GND (power), 196 GND (power), 198 VCCINT (power), 204 GND (power), 211 GND (power), 214 VCCINT (power), 219 GND (power), 225 VCCINT (power), 227 GND (power), 233 GND (power), 239 TCK (in)

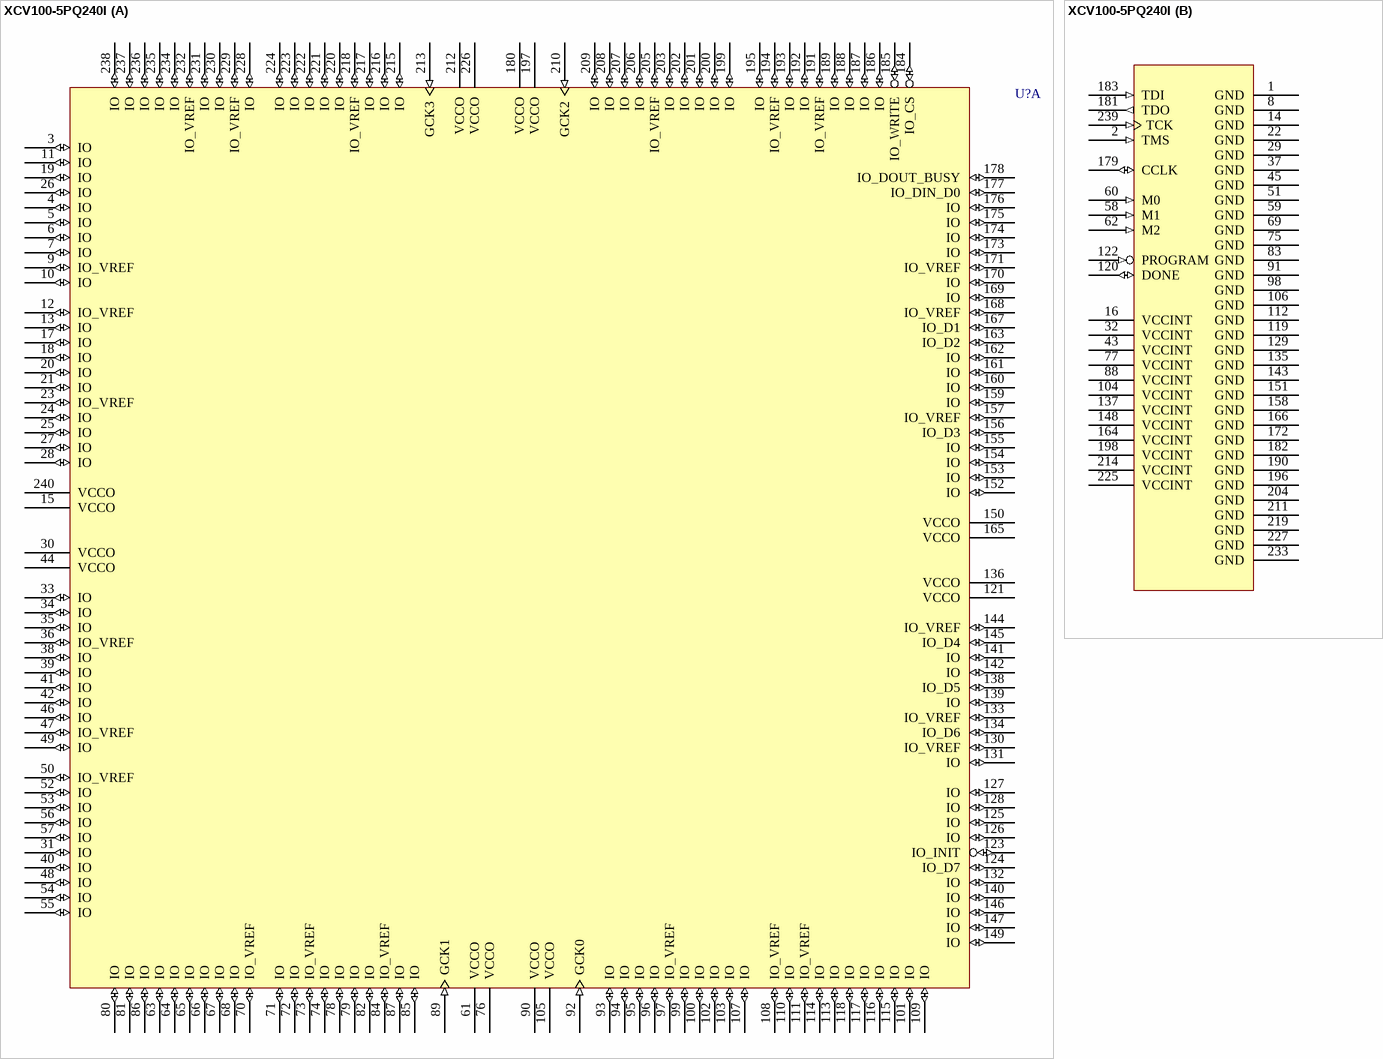
[diagram p33: symbol XCV100-5PQ240I]

## XCV100-5PQ240I
designator U?
Virtex 2.5V FPGA, 240-Pin PQFP, Industrial Grade; PackageDocument: ver1.1, Oct-2002; Published: 19-Sep-2001; LatestRevisionDate: 17-Jul-2002; LatestRevisionNote: Re-released for DXP Platform.; DatasheetDocument: Dec-2002; PackageReference: PQ240; Publisher: Altium Limited; Code_JEDEC: MO-143-GA
footprint PQ240 (240-Pin Plastic Quad Flat Pack (PQ240))
3D model XCV100-PQ240 (240-Pin Plastic Quad Flat Pack (PQ240))
signal-integrity model XCV100_PQ240 (Virtex)
part A pins: 3 IO (io), 4 IO (io), 5 IO (io), 6 IO (io), 7 IO (io), 9 IO_VREF (io), 10 IO (io), 11 IO (io), 12 IO_VREF (io), 13 IO (io), 15 VCCO (power), 17 IO (io), 18 IO (io), 19 IO (io), 20 IO (io), 21 IO (io), 23 IO_VREF (io), 24 IO (io), 25 IO (io), 26 IO (io), 27 IO (io), 28 IO (io), 30 VCCO (power), 31 IO (io), 33 IO (io), 34 IO (io), 35 IO (io), 36 IO_VREF (io), 38 IO (io), 39 IO (io), 40 IO (io), 41 IO (io), 42 IO (io), 44 VCCO (power), 46 IO (io), 47 IO_VREF (io), 48 IO (io), 49 IO (io), 50 IO_VREF (io), 52 IO (io), 53 IO (io), 54 IO (io), 55 IO (io), 56 IO (io), 57 IO (io), 61 VCCO (power), 63 IO (io), 64 IO (io), 65 IO (io), 66 IO (io), 67 IO (io), 68 IO (io), 70 IO_VREF (io), 71 IO (io), 72 IO (io), 73 IO_VREF (io), 74 IO (io), 76 VCCO (power), 78 IO (io), 79 IO (io), 80 IO (io), 81 IO (io), 82 IO (io), 84 IO_VREF (io), 85 IO (io), 86 IO (io), 87 IO (io), 89 GCK1 (in), 90 VCCO (power), 92 GCK0 (in), 93 IO (io), 94 IO (io), 95 IO (io), 96 IO (io), 97 IO_VREF (io), 99 IO (io), 100 IO (io), 101 IO (io), 102 IO (io), 103 IO (io), 105 VCCO (power), 107 IO (io), 108 IO_VREF (io), 109 IO (io), 110 IO (io), 111 IO_VREF (io), 113 IO (io), 114 IO (io), 115 IO (io), 116 IO (io), 117 IO (io), 118 IO (io), 121 VCCO (power), 123 IO_INIT (io), 124 IO_D7 (io), 125 IO (io), 126 IO (io), 127 IO (io), 128 IO (io), 130 IO_VREF (io), 131 IO (io), 132 IO (io), 133 IO_VREF (io), 134 IO_D6 (io), 136 VCCO (power), 138 IO_D5 (io), 139 IO (io), 140 IO (io), 141 IO (io), 142 IO (io), 144 IO_VREF (io), 145 IO_D4 (io), 146 IO (io), 147 IO (io), 149 IO (io), 150 VCCO (power), 152 IO (io), 153 IO (io), 154 IO (io), 155 IO (io), 156 IO_D3 (io), 157 IO_VREF (io), 159 IO (io), 160 IO (io), 161 IO (io), 162 IO (io), 163 IO_D2 (io), 165 VCCO (power), 167 IO_D1 (io), 168 IO_VREF (io), 169 IO (io), 170 IO (io), 171 IO_VREF (io), 173 IO (io), 174 IO (io), 175 IO (io), 176 IO (io), 177 IO_DIN_D0 (io), 178 IO_DOUT_BUSY (io), 180 VCCO (power), 184 IO_CS (io), 185 IO_WRITE (io), 186 IO (io), 187 IO (io), 188 IO (io), 189 IO (io), 191 IO_VREF (io), 192 IO (io), 193 IO (io), 194 IO_VREF (io), 195 IO (io), 197 VCCO (power), 199 IO (io), 200 IO (io), 201 IO (io), 202 IO (io), 203 IO (io), 205 IO_VREF (io), 206 IO (io), 207 IO (io), 208 IO (io), 209 IO (io), 210 GCK2 (in), 212 VCCO (power), 213 GCK3 (in), 215 IO (io), 216 IO (io), 217 IO (io), 218 IO_VREF (io), 220 IO (io), 221 IO (io), 222 IO (io), 223 IO (io), 224 IO (io), 226 VCCO (power), 228 IO (io), 229 IO_VREF (io), 230 IO (io), 231 IO (io), 232 IO_VREF (io), 234 IO (io), 235 IO (io), 236 IO (io), 237 IO (io), 238 IO (io), 240 VCCO (power)
part B pins: 1 GND (power), 2 TMS (in), 8 GND (power), 14 GND (power), 16 VCCINT (power), 22 GND (power), 29 GND (power), 32 VCCINT (power), 37 GND (power), 43 VCCINT (power), 45 GND (power), 51 GND (power), 58 M1 (in), 59 GND (power), 60 M0 (in), 62 M2 (in), 69 GND (power), 75 GND (power), 77 VCCINT (power), 83 GND (power), 88 VCCINT (power), 91 GND (power), 98 GND (power), 104 VCCINT (power), 106 GND (power), 112 GND (power), 119 GND (power), 120 DONE (io), 122 PROGRAM (in), 129 GND (power), 135 GND (power), 137 VCCINT (power), 143 GND (power), 148 VCCINT (power), 151 GND (power), 158 GND (power), 164 VCCINT (power), 166 GND (power), 172 GND (power), 179 CCLK (io), 181 TDO (out), 182 GND (power), 183 TDI (in), 190 GND (power), 196 GND (power), 198 VCCINT (power), 204 GND (power), 211 GND (power), 214 VCCINT (power), 219 GND (power), 225 VCCINT (power), 227 GND (power), 233 GND (power), 239 TCK (in)

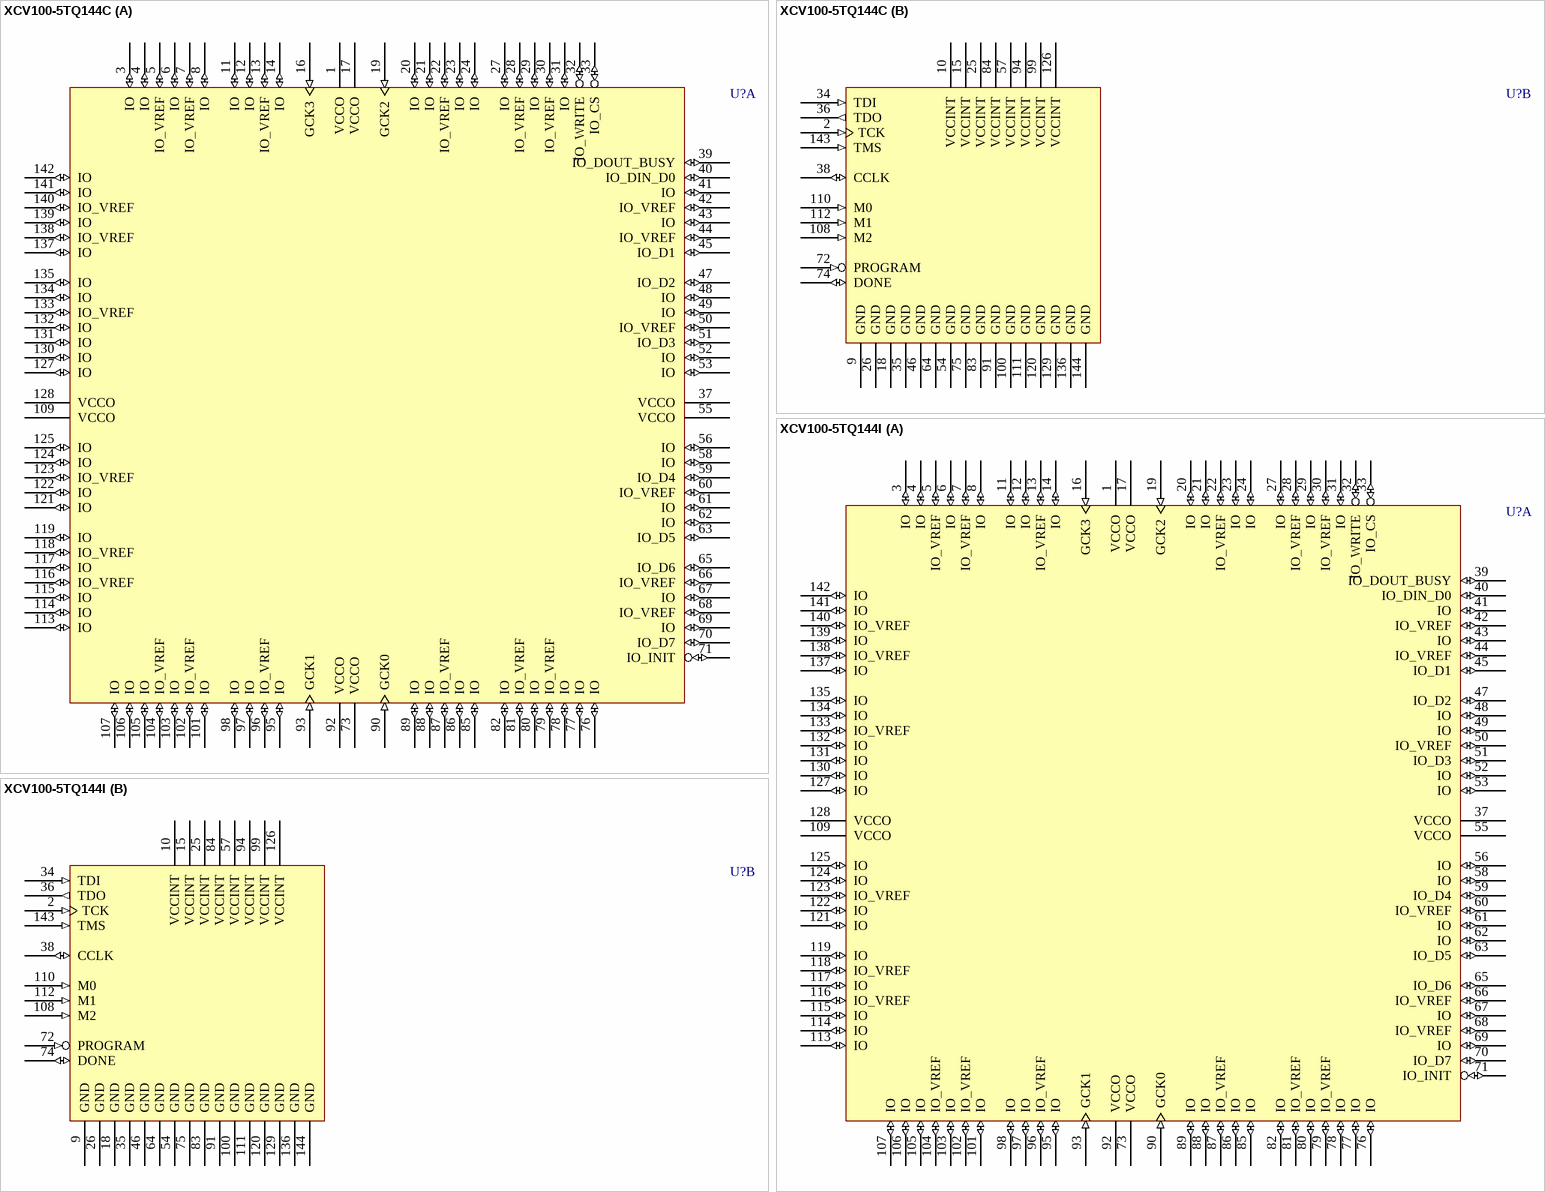
[diagram p34: symbols XCV100-5TQ144C to XCV100-5TQ144I]

## XCV100-5TQ144C
designator U?
Virtex 2.5V FPGA, 144-Pin TQFP, Commercial Grade; PackageDocument: ver1.1, Oct-2002; Published: 19-Sep-2001; LatestRevisionDate: 17-Jul-2002; LatestRevisionNote: Re-released for DXP Platform.; DatasheetDocument: Dec-2002; PackageReference: TQ144; Publisher: Altium Limited; Code_JEDEC: MS-026-BFB; Code_IPC: SQFP20X20-144
footprint TQ144 (144-Pin Thin Quad Flat Pack (TQ144))
3D model XCV100-TQ144 (144-Pin Thin Quad Flat Pack (TQ144))
signal-integrity model XCV100_TQ144 (Virtex)
part A pins: 1 VCCO (power), 3 IO (io), 4 IO (io), 5 IO_VREF (io), 6 IO (io), 7 IO_VREF (io), 8 IO (io), 11 IO (io), 12 IO (io), 13 IO_VREF (io), 14 IO (io), 16 GCK3 (in), 17 VCCO (power), 19 GCK2 (in), 20 IO (io), 21 IO (io), 22 IO_VREF (io), 23 IO (io), 24 IO (io), 27 IO (io), 28 IO_VREF (io), 29 IO (io), 30 IO_VREF (io), 31 IO (io), 32 IO_WRITE (io), 33 IO_CS (io), 37 VCCO (power), 39 IO_DOUT_BUSY (io), 40 IO_DIN_D0 (io), 41 IO (io), 42 IO_VREF (io), 43 IO (io), 44 IO_VREF (io), 45 IO_D1 (io), 47 IO_D2 (io), 48 IO (io), 49 IO (io), 50 IO_VREF (io), 51 IO_D3 (io), 52 IO (io), 53 IO (io), 55 VCCO (power), 56 IO (io), 58 IO (io), 59 IO_D4 (io), 60 IO_VREF (io), 61 IO (io), 62 IO (io), 63 IO_D5 (io), 65 IO_D6 (io), 66 IO_VREF (io), 67 IO (io), 68 IO_VREF (io), 69 IO (io), 70 IO_D7 (io), 71 IO_INIT (io), 73 VCCO (power), 76 IO (io), 77 IO (io), 78 IO (io), 79 IO_VREF (io), 80 IO (io), 81 IO_VREF (io), 82 IO (io), 85 IO (io), 86 IO (io), 87 IO_VREF (io), 88 IO (io), 89 IO (io), 90 GCK0 (in), 92 VCCO (power), 93 GCK1 (in), 95 IO (io), 96 IO_VREF (io), 97 IO (io), 98 IO (io), 101 IO (io), 102 IO_VREF (io), 103 IO (io), 104 IO_VREF (io), 105 IO (io), 106 IO (io), 107 IO (io), 109 VCCO (power), 113 IO (io), 114 IO (io), 115 IO (io), 116 IO_VREF (io), 117 IO (io), 118 IO_VREF (io), 119 IO (io), 121 IO (io), 122 IO (io), 123 IO_VREF (io), 124 IO (io), 125 IO (io), 127 IO (io), 128 VCCO (power), 130 IO (io), 131 IO (io), 132 IO (io), 133 IO_VREF (io), 134 IO (io), 135 IO (io), 137 IO (io), 138 IO_VREF (io), 139 IO (io), 140 IO_VREF (io), 141 IO (io), 142 IO (io)
part B pins: 2 TCK (in), 9 GND (power), 10 VCCINT (power), 15 VCCINT (power), 18 GND (power), 25 VCCINT (power), 26 GND (power), 34 TDI (in), 35 GND (power), 36 TDO (out), 38 CCLK (io), 46 GND (power), 54 GND (power), 57 VCCINT (power), 64 GND (power), 72 PROGRAM (in), 74 DONE (io), 75 GND (power), 83 GND (power), 84 VCCINT (power), 91 GND (power), 94 VCCINT (power), 99 VCCINT (power), 100 GND (power), 108 M2 (in), 110 M0 (in), 111 GND (power), 112 M1 (in), 120 GND (power), 126 VCCINT (power), 129 GND (power), 136 GND (power), 143 TMS (in), 144 GND (power)

## XCV100-5TQ144I
designator U?
Virtex 2.5V FPGA, 144-Pin TQFP, Industrial Grade; PackageDocument: ver1.1, Oct-2002; Published: 19-Sep-2001; LatestRevisionDate: 17-Jul-2002; LatestRevisionNote: Re-released for DXP Platform.; DatasheetDocument: Dec-2002; PackageReference: TQ144; Publisher: Altium Limited; Code_JEDEC: MS-026-BFB; Code_IPC: SQFP20X20-144
footprint TQ144 (144-Pin Thin Quad Flat Pack (TQ144))
3D model XCV100-TQ144 (144-Pin Thin Quad Flat Pack (TQ144))
signal-integrity model XCV100_TQ144 (Virtex)
part A pins: 1 VCCO (power), 3 IO (io), 4 IO (io), 5 IO_VREF (io), 6 IO (io), 7 IO_VREF (io), 8 IO (io), 11 IO (io), 12 IO (io), 13 IO_VREF (io), 14 IO (io), 16 GCK3 (in), 17 VCCO (power), 19 GCK2 (in), 20 IO (io), 21 IO (io), 22 IO_VREF (io), 23 IO (io), 24 IO (io), 27 IO (io), 28 IO_VREF (io), 29 IO (io), 30 IO_VREF (io), 31 IO (io), 32 IO_WRITE (io), 33 IO_CS (io), 37 VCCO (power), 39 IO_DOUT_BUSY (io), 40 IO_DIN_D0 (io), 41 IO (io), 42 IO_VREF (io), 43 IO (io), 44 IO_VREF (io), 45 IO_D1 (io), 47 IO_D2 (io), 48 IO (io), 49 IO (io), 50 IO_VREF (io), 51 IO_D3 (io), 52 IO (io), 53 IO (io), 55 VCCO (power), 56 IO (io), 58 IO (io), 59 IO_D4 (io), 60 IO_VREF (io), 61 IO (io), 62 IO (io), 63 IO_D5 (io), 65 IO_D6 (io), 66 IO_VREF (io), 67 IO (io), 68 IO_VREF (io), 69 IO (io), 70 IO_D7 (io), 71 IO_INIT (io), 73 VCCO (power), 76 IO (io), 77 IO (io), 78 IO (io), 79 IO_VREF (io), 80 IO (io), 81 IO_VREF (io), 82 IO (io), 85 IO (io), 86 IO (io), 87 IO_VREF (io), 88 IO (io), 89 IO (io), 90 GCK0 (in), 92 VCCO (power), 93 GCK1 (in), 95 IO (io), 96 IO_VREF (io), 97 IO (io), 98 IO (io), 101 IO (io), 102 IO_VREF (io), 103 IO (io), 104 IO_VREF (io), 105 IO (io), 106 IO (io), 107 IO (io), 109 VCCO (power), 113 IO (io), 114 IO (io), 115 IO (io), 116 IO_VREF (io), 117 IO (io), 118 IO_VREF (io), 119 IO (io), 121 IO (io), 122 IO (io), 123 IO_VREF (io), 124 IO (io), 125 IO (io), 127 IO (io), 128 VCCO (power), 130 IO (io), 131 IO (io), 132 IO (io), 133 IO_VREF (io), 134 IO (io), 135 IO (io), 137 IO (io), 138 IO_VREF (io), 139 IO (io), 140 IO_VREF (io), 141 IO (io), 142 IO (io)
part B pins: 2 TCK (in), 9 GND (power), 10 VCCINT (power), 15 VCCINT (power), 18 GND (power), 25 VCCINT (power), 26 GND (power), 34 TDI (in), 35 GND (power), 36 TDO (out), 38 CCLK (io), 46 GND (power), 54 GND (power), 57 VCCINT (power), 64 GND (power), 72 PROGRAM (in), 74 DONE (io), 75 GND (power), 83 GND (power), 84 VCCINT (power), 91 GND (power), 94 VCCINT (power), 99 VCCINT (power), 100 GND (power), 108 M2 (in), 110 M0 (in), 111 GND (power), 112 M1 (in), 120 GND (power), 126 VCCINT (power), 129 GND (power), 136 GND (power), 143 TMS (in), 144 GND (power)

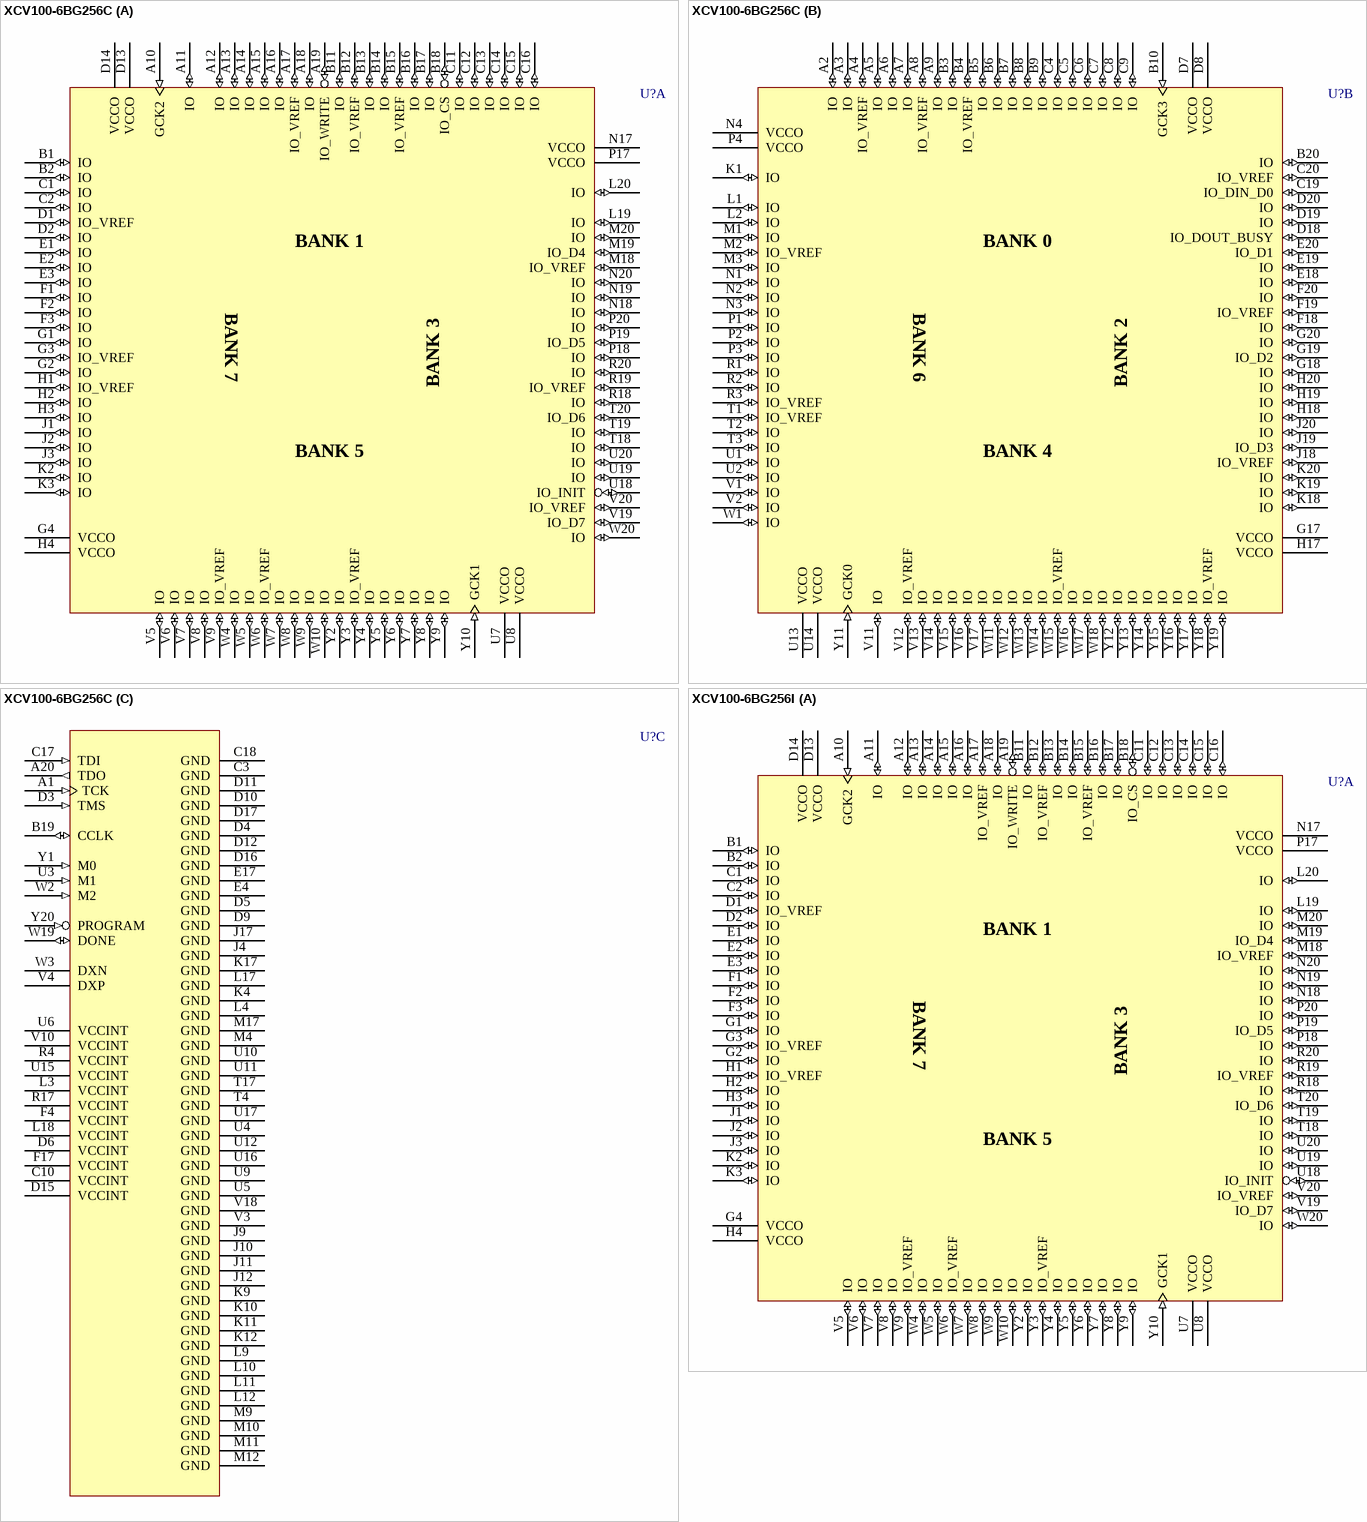
[diagram p35: symbols XCV100-6BG256C to XCV100-6BG256I]

## XCV100-6BG256C
designator U?
Virtex 2.5V FPGA, 256-Ball Thermally Enhanced BGA, Commercial Grade; PackageDocument: ver1.1, Apr-2001; Note: Solder pads are defined by the copper, i.e. non-soldermask defined (NSMD); 16 extra balls (grounded) at package center; Published: 19-Sep-2001; LatestRevisionDate: 17-Jul-2002; LatestRevisionNote: Re-released for DXP Platform.; DatasheetDocument: Dec-2002; PackageReference: BG256TE; Publisher: Altium Limited
footprint BG256TE (272-Ball Plastic Ball Grid Array (Thermally Enhanced BG256))
3D model XCV100-BG256TE (272-Ball Plastic Ball Grid Array (Thermally Enhanced BG256))
signal-integrity model XCV100_BG256 (Virtex)
part A pins: A10 GCK2 (in), A11 IO (io), A12 IO (io), A13 IO (io), A14 IO (io), A15 IO (io), A16 IO (io), A17 IO_VREF (io), A18 IO (io), A19 IO_WRITE (io), B1 IO (io), B2 IO (io), B11 IO (io), B12 IO_VREF (io), B13 IO (io), B14 IO (io), B15 IO_VREF (io), B16 IO (io), B17 IO (io), B18 IO_CS (io), C1 IO (io), C2 IO (io), C11 IO (io), C12 IO (io), C13 IO (io), C14 IO (io), C15 IO (io), C16 IO (io), D1 IO_VREF (io), D2 IO (io), D13 VCCO (power), D14 VCCO (power), E1 IO (io), E2 IO (io), E3 IO (io), F1 IO (io), F2 IO (io), F3 IO (io), G1 IO (io), G2 IO (io), G3 IO_VREF (io), G4 VCCO (power), H1 IO_VREF (io), H2 IO (io), H3 IO (io), H4 VCCO (power), J1 IO (io), J2 IO (io), J3 IO (io), K2 IO (io), K3 IO (io), L19 IO (io), L20 IO (io), M18 IO_VREF (io), M19 IO_D4 (io), M20 IO (io), N17 VCCO (power), N18 IO (io), N19 IO (io), N20 IO (io), P17 VCCO (power), P18 IO (io), P19 IO_D5 (io), P20 IO (io), R18 IO (io), R19 IO_VREF (io), R20 IO (io), T18 IO (io), T19 IO (io), T20 IO_D6 (io), U7 VCCO (power), U8 VCCO (power), U18 IO_INIT (io), U19 IO (io), U20 IO (io), V5 IO (io), V6 IO (io), V7 IO (io), V8 IO (io), V9 IO_VREF (io), V19 IO_D7 (io), V20 IO_VREF (io), W4 IO (io), W5 IO (io), W6 IO_VREF (io), W7 IO (io), W8 IO (io), W9 IO (io), W10 IO (io), W20 IO (io), Y2 IO (io), Y3 IO_VREF (io), Y4 IO (io), Y5 IO (io), Y6 IO (io), Y7 IO (io), Y8 IO (io), Y9 IO (io), Y10 GCK1 (in)
part B pins: A2 IO (io), A3 IO (io), A4 IO_VREF (io), A5 IO (io), A6 IO (io), A7 IO (io), A8 IO_VREF (io), A9 IO (io), B3 IO (io), B4 IO_VREF (io), B5 IO (io), B6 IO (io), B7 IO (io), B8 IO (io), B9 IO (io), B10 GCK3 (in), B20 IO (io), C4 IO (io), C5 IO (io), C6 IO (io), C7 IO (io), C8 IO (io), C9 IO (io), C19 IO_DIN_D0 (io), C20 IO_VREF (io), D7 VCCO (power), D8 VCCO (power), D18 IO_DOUT_BUSY (io), D19 IO (io), D20 IO (io), E18 IO (io), E19 IO (io), E20 IO_D1 (io), F18 IO (io), F19 IO_VREF (io), F20 IO (io), G17 VCCO (power), G18 IO (io), G19 IO_D2 (io), G20 IO (io), H17 VCCO (power), H18 IO (io), H19 IO (io), H20 IO (io), J18 IO_VREF (io), J19 IO_D3 (io), J20 IO (io), K1 IO (io), K18 IO (io), K19 IO (io), K20 IO (io), L1 IO (io), L2 IO (io), M1 IO (io), M2 IO_VREF (io), M3 IO (io), N1 IO (io), N2 IO (io), N3 IO (io), N4 VCCO (power), P1 IO (io), P2 IO (io), P3 IO (io), P4 VCCO (power), R1 IO (io), R2 IO (io), R3 IO_VREF (io), T1 IO_VREF (io), T2 IO (io), T3 IO (io), U1 IO (io), U2 IO (io), U13 VCCO (power), U14 VCCO (power), V1 IO (io), V2 IO (io), V11 IO (io), V12 IO_VREF (io), V13 IO (io), V14 IO (io), V15 IO (io), V16 IO (io), V17 IO (io), W1 IO (io), W11 IO (io), W12 IO (io), W13 IO (io), W14 IO (io), W15 IO_VREF (io), W16 IO (io), W17 IO (io), W18 IO (io), Y11 GCK0 (in), Y12 IO (io), Y13 IO (io), Y14 IO (io), Y15 IO (io), Y16 IO (io), Y17 IO (io), Y18 IO_VREF (io), Y19 IO (io)
part C pins: A1 TCK (in), A20 TDO (out), B19 CCLK (io), C3 GND (power), C10 VCCINT (power), C17 TDI (in), C18 GND (power), D3 TMS (in), D4 GND (power), D5 GND (power), D6 VCCINT (power), D9 GND (power), D10 GND (power), D11 GND (power), D12 GND (power), D15 VCCINT (power), D16 GND (power), D17 GND (power), E4 GND (power), E17 GND (power), F4 VCCINT (power), F17 VCCINT (power), J4 GND (power), J9 GND (power), J10 GND (power), J11 GND (power), J12 GND (power), J17 GND (power), K4 GND (power), K9 GND (power), K10 GND (power), K11 GND (power), K12 GND (power), K17 GND (power), L3 VCCINT (power), L4 GND (power), L9 GND (power), L10 GND (power), L11 GND (power), L12 GND (power), L17 GND (power), L18 VCCINT (power), M4 GND (power), M9 GND (power), M10 GND (power), M11 GND (power), M12 GND (power), M17 GND (power), R4 VCCINT (power), R17 VCCINT (power), T4 GND (power), T17 GND (power), U3 M1 (in), U4 GND (power), U5 GND (power), U6 VCCINT (power), U9 GND (power), U10 GND (power), U11 GND (power), U12 GND (power), U15 VCCINT (power), U16 GND (power), U17 GND (power), V3 GND (power), V4 DXP, V10 VCCINT (power), V18 GND (power), W2 M2 (in), W3 DXN, W19 DONE (io), Y1 M0 (in), Y20 PROGRAM (in)
part A text: BANK 1; BANK 7; BANK 3; BANK 5
part B text: BANK 0; BANK 6; BANK 2; BANK 4

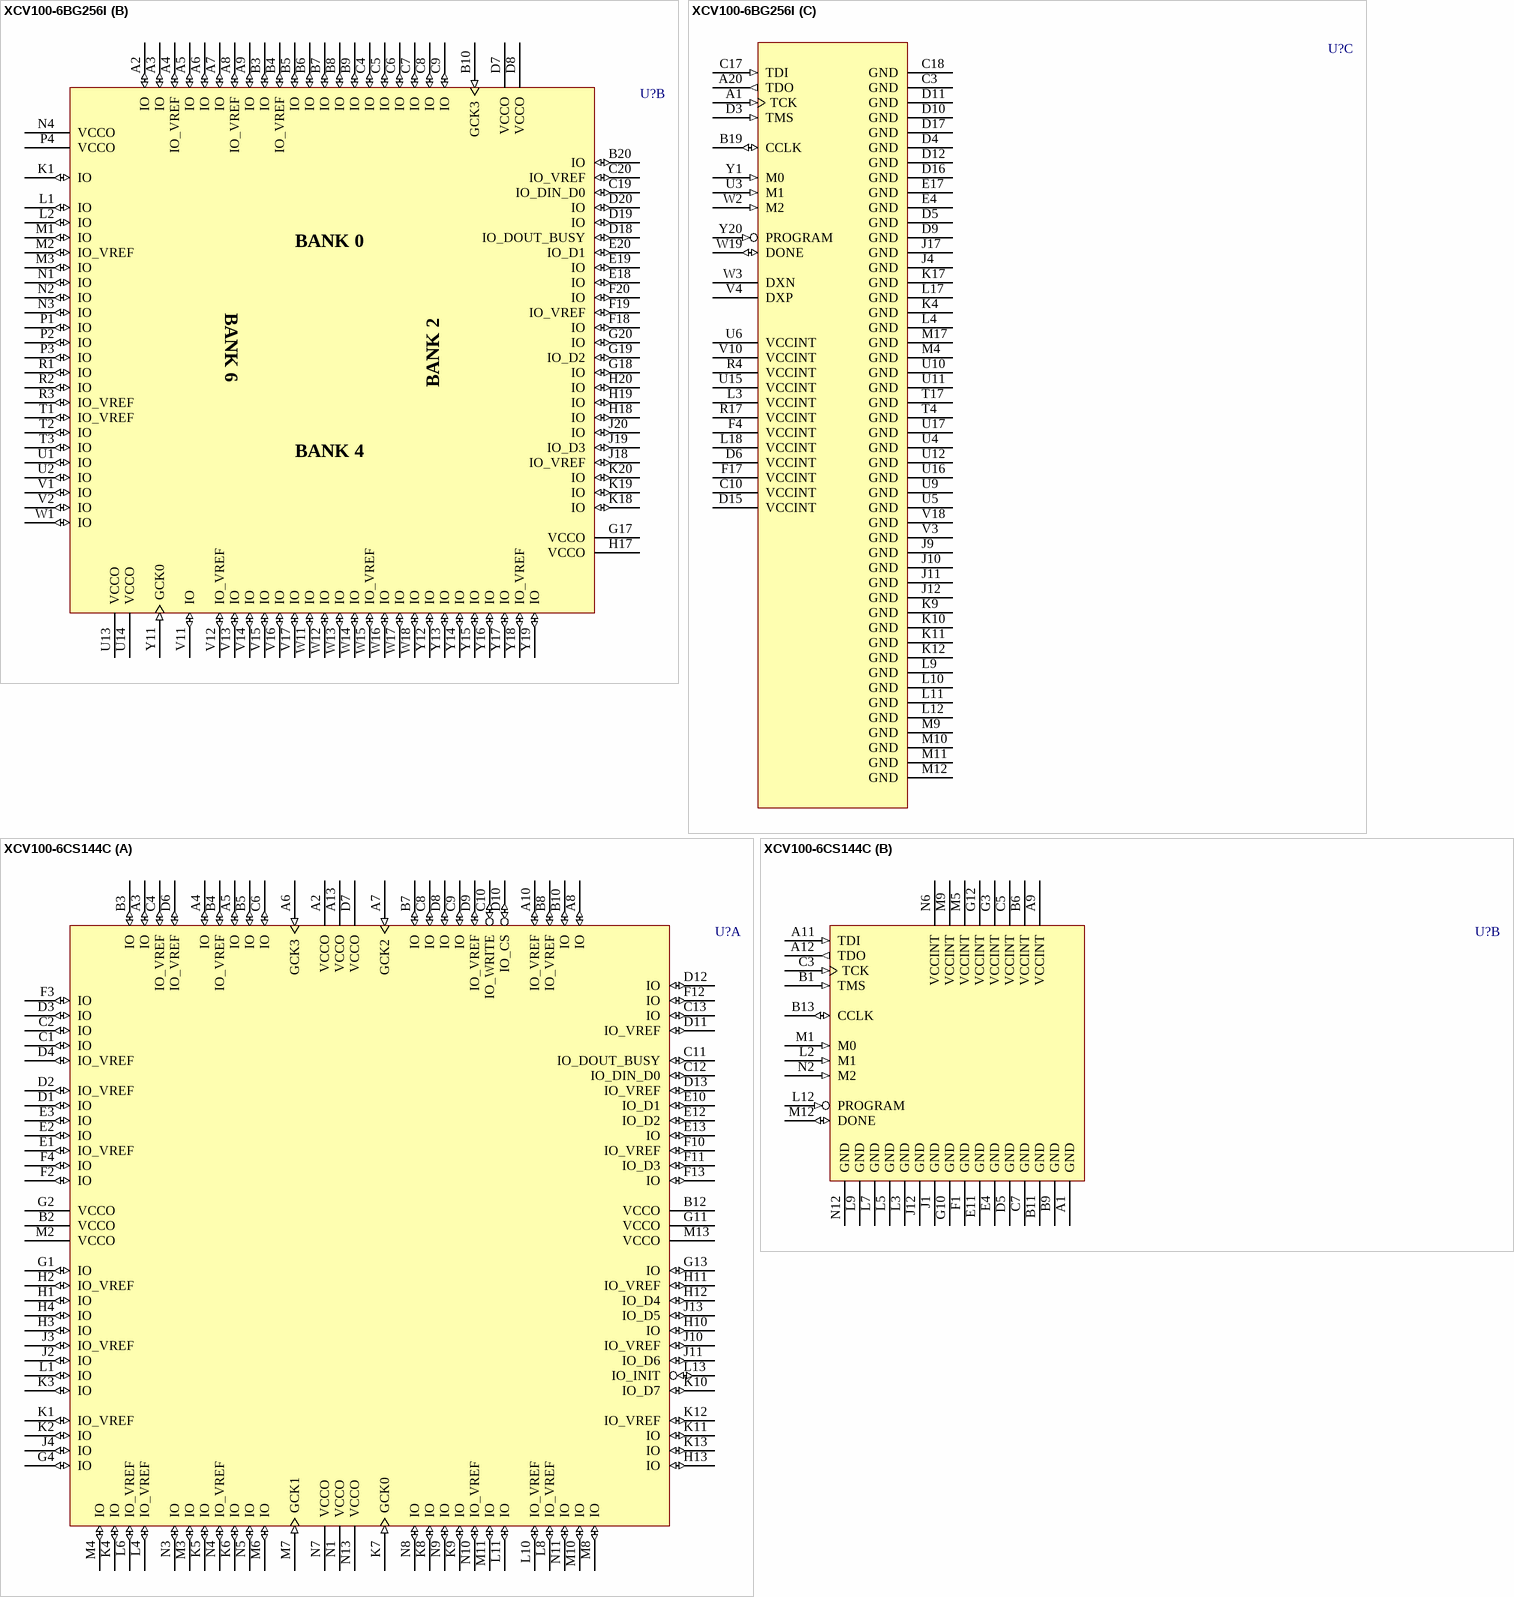
[diagram p36: symbols XCV100-6BG256I to XCV100-6CS144C]

## XCV100-6BG256I
designator U?
Virtex 2.5V FPGA, 256-Ball Thermally Enhanced BGA, Industrial Grade; PackageDocument: ver1.1, Apr-2001; Note: Solder pads are defined by the copper, i.e. non-soldermask defined (NSMD); 16 extra balls (grounded) at package center; Published: 19-Sep-2001; LatestRevisionDate: 17-Jul-2002; LatestRevisionNote: Re-released for DXP Platform.; DatasheetDocument: Dec-2002; PackageReference: BG256TE; Publisher: Altium Limited
footprint BG256TE (272-Ball Plastic Ball Grid Array (Thermally Enhanced BG256))
3D model XCV100-BG256TE (272-Ball Plastic Ball Grid Array (Thermally Enhanced BG256))
signal-integrity model XCV100_BG256 (Virtex)
part A pins: A10 GCK2 (in), A11 IO (io), A12 IO (io), A13 IO (io), A14 IO (io), A15 IO (io), A16 IO (io), A17 IO_VREF (io), A18 IO (io), A19 IO_WRITE (io), B1 IO (io), B2 IO (io), B11 IO (io), B12 IO_VREF (io), B13 IO (io), B14 IO (io), B15 IO_VREF (io), B16 IO (io), B17 IO (io), B18 IO_CS (io), C1 IO (io), C2 IO (io), C11 IO (io), C12 IO (io), C13 IO (io), C14 IO (io), C15 IO (io), C16 IO (io), D1 IO_VREF (io), D2 IO (io), D13 VCCO (power), D14 VCCO (power), E1 IO (io), E2 IO (io), E3 IO (io), F1 IO (io), F2 IO (io), F3 IO (io), G1 IO (io), G2 IO (io), G3 IO_VREF (io), G4 VCCO (power), H1 IO_VREF (io), H2 IO (io), H3 IO (io), H4 VCCO (power), J1 IO (io), J2 IO (io), J3 IO (io), K2 IO (io), K3 IO (io), L19 IO (io), L20 IO (io), M18 IO_VREF (io), M19 IO_D4 (io), M20 IO (io), N17 VCCO (power), N18 IO (io), N19 IO (io), N20 IO (io), P17 VCCO (power), P18 IO (io), P19 IO_D5 (io), P20 IO (io), R18 IO (io), R19 IO_VREF (io), R20 IO (io), T18 IO (io), T19 IO (io), T20 IO_D6 (io), U7 VCCO (power), U8 VCCO (power), U18 IO_INIT (io), U19 IO (io), U20 IO (io), V5 IO (io), V6 IO (io), V7 IO (io), V8 IO (io), V9 IO_VREF (io), V19 IO_D7 (io), V20 IO_VREF (io), W4 IO (io), W5 IO (io), W6 IO_VREF (io), W7 IO (io), W8 IO (io), W9 IO (io), W10 IO (io), W20 IO (io), Y2 IO (io), Y3 IO_VREF (io), Y4 IO (io), Y5 IO (io), Y6 IO (io), Y7 IO (io), Y8 IO (io), Y9 IO (io), Y10 GCK1 (in)
part B pins: A2 IO (io), A3 IO (io), A4 IO_VREF (io), A5 IO (io), A6 IO (io), A7 IO (io), A8 IO_VREF (io), A9 IO (io), B3 IO (io), B4 IO_VREF (io), B5 IO (io), B6 IO (io), B7 IO (io), B8 IO (io), B9 IO (io), B10 GCK3 (in), B20 IO (io), C4 IO (io), C5 IO (io), C6 IO (io), C7 IO (io), C8 IO (io), C9 IO (io), C19 IO_DIN_D0 (io), C20 IO_VREF (io), D7 VCCO (power), D8 VCCO (power), D18 IO_DOUT_BUSY (io), D19 IO (io), D20 IO (io), E18 IO (io), E19 IO (io), E20 IO_D1 (io), F18 IO (io), F19 IO_VREF (io), F20 IO (io), G17 VCCO (power), G18 IO (io), G19 IO_D2 (io), G20 IO (io), H17 VCCO (power), H18 IO (io), H19 IO (io), H20 IO (io), J18 IO_VREF (io), J19 IO_D3 (io), J20 IO (io), K1 IO (io), K18 IO (io), K19 IO (io), K20 IO (io), L1 IO (io), L2 IO (io), M1 IO (io), M2 IO_VREF (io), M3 IO (io), N1 IO (io), N2 IO (io), N3 IO (io), N4 VCCO (power), P1 IO (io), P2 IO (io), P3 IO (io), P4 VCCO (power), R1 IO (io), R2 IO (io), R3 IO_VREF (io), T1 IO_VREF (io), T2 IO (io), T3 IO (io), U1 IO (io), U2 IO (io), U13 VCCO (power), U14 VCCO (power), V1 IO (io), V2 IO (io), V11 IO (io), V12 IO_VREF (io), V13 IO (io), V14 IO (io), V15 IO (io), V16 IO (io), V17 IO (io), W1 IO (io), W11 IO (io), W12 IO (io), W13 IO (io), W14 IO (io), W15 IO_VREF (io), W16 IO (io), W17 IO (io), W18 IO (io), Y11 GCK0 (in), Y12 IO (io), Y13 IO (io), Y14 IO (io), Y15 IO (io), Y16 IO (io), Y17 IO (io), Y18 IO_VREF (io), Y19 IO (io)
part C pins: A1 TCK (in), A20 TDO (out), B19 CCLK (io), C3 GND (power), C10 VCCINT (power), C17 TDI (in), C18 GND (power), D3 TMS (in), D4 GND (power), D5 GND (power), D6 VCCINT (power), D9 GND (power), D10 GND (power), D11 GND (power), D12 GND (power), D15 VCCINT (power), D16 GND (power), D17 GND (power), E4 GND (power), E17 GND (power), F4 VCCINT (power), F17 VCCINT (power), J4 GND (power), J9 GND (power), J10 GND (power), J11 GND (power), J12 GND (power), J17 GND (power), K4 GND (power), K9 GND (power), K10 GND (power), K11 GND (power), K12 GND (power), K17 GND (power), L3 VCCINT (power), L4 GND (power), L9 GND (power), L10 GND (power), L11 GND (power), L12 GND (power), L17 GND (power), L18 VCCINT (power), M4 GND (power), M9 GND (power), M10 GND (power), M11 GND (power), M12 GND (power), M17 GND (power), R4 VCCINT (power), R17 VCCINT (power), T4 GND (power), T17 GND (power), U3 M1 (in), U4 GND (power), U5 GND (power), U6 VCCINT (power), U9 GND (power), U10 GND (power), U11 GND (power), U12 GND (power), U15 VCCINT (power), U16 GND (power), U17 GND (power), V3 GND (power), V4 DXP, V10 VCCINT (power), V18 GND (power), W2 M2 (in), W3 DXN, W19 DONE (io), Y1 M0 (in), Y20 PROGRAM (in)
part A text: BANK 1; BANK 7; BANK 3; BANK 5
part B text: BANK 0; BANK 6; BANK 2; BANK 4